# Altium schematic symbol library PROC154E3_SCH_Library.SchLib: 288 symbols (part 2 of 3)
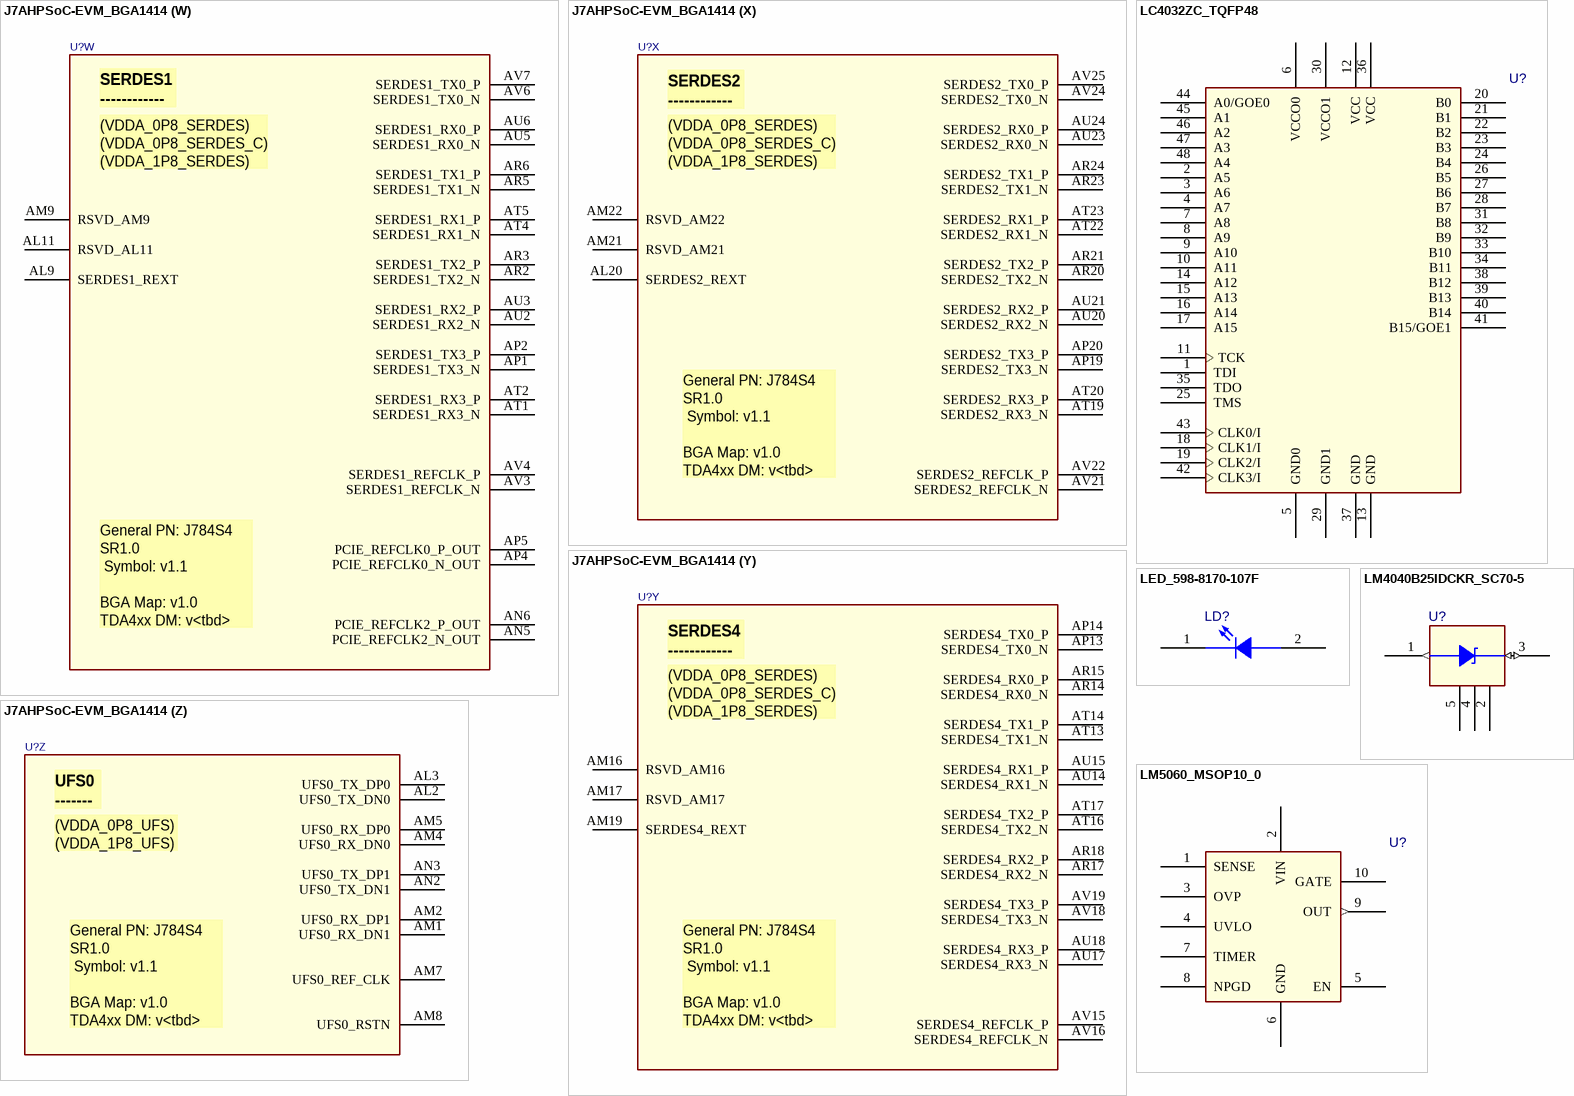
[diagram p25: symbols J7AHPSoC-EVM_BGA1414 to LM5060_MSOP10_0]

## J7AHPSoC-EVM_BGA1414
designator U?
SPLIT_INST: TRUE; SWAP_INFO: (S1+S2+S3+S4+S5+S6+S7+S8+S9+S10+S11+S12+S13+S14+S15+S16+S17+S18+S19+S20+S21+S22+S23+S24+S25+S26)
footprint BGA1414_31-49_1230X1230_2-7
part A pins: AC32 MCASP1_AXR1, AC33 MCAN2_TX, AC34 MCASP1_ACLKX, AC35 MCASP0_AXR8, AC36 MCASP2_AXR0, AC37 MCASP1_AXR2, AD33 MCASP1_AFSX, AD34 MCASP0_AXR12, AD36 ECAP0_IN_APWM_OUT, AD37 MCASP2_ACLKX, AD38 MCASP1_AXR0, AE33 MCAN16_RX, AE34 MCASP0_AXR15, AE35 MCASP0_AXR7, AE36 MCASP2_AXR1, AE37 MCASP2_AFSX, AE38 MCAN0_RX, AF33 MCAN13_TX, AF34 MCASP0_AXR14, AF35 MCASP0_AXR11, AF36 MCASP0_AXR6, AF37 MCASP0_AXR0, AF38 MCAN0_TX, AG33 MCAN14_TX, AG34 MCAN15_TX, AG35 MCASP0_AXR9, AG36 MCAN12_TX, AG37 MCASP0_AXR1, AG38 MCASP0_AXR5, AH33 MCAN13_RX, AH34 MCAN16_TX, AH36 MCASP0_AXR10, AH37 MCAN2_RX, AH38 MCAN1_RX, AJ32 EXT_REFCLK1, AJ33 MCAN12_RX, AJ35 MCAN15_RX, AJ36 MCASP0_AXR13, AJ37 MCAN1_TX, AJ38 MCASP0_AXR3, AK33 MCASP0_AXR2, AK34 MCASP0_AXR4, AK35 MCASP0_ACLKX, AK36 MCAN14_RX, AK37 GPIO0_12, AK38 MCASP0_AFSX, AL32 GPIO0_11, AL33 MCASP1_AXR3, AL34 MCASP1_AXR4, AM35 SPI0_D0, AM36 SPI0_D1, AM37 SPI0_CS0, AN35 EXTINTN, AN36 I2C0_SCL, AN37 TIMER_IO1, AN38 SPI0_CLK, AP37 I2C0_SDA, AP38 SPI0_CS1, AR38 TIMER_IO0
part B pins: AN15 USB0_VBUS, AN17 USB0_ID, AN18 USB0_RCALIB, AP16 USB0_DM, AP17 USB0_DP
part C pins: AA31 VPP_CORE (power), AL35 TDO, AL36 TMS, AL37 TDI, AM14 RSVD_AM14, AN13 RSVD_AN13, F35 EMU0, G30 RSVD_G30, G35 TCK, G37 TRSTN, H32 RSVD_H32, H33 RSVD_H33, H34 EMU1, J30 VMON3_IR_VEXT1P8, J31 RSVD_J31, J33 RSVD_J33, K28 VMON1_ER_VSYS, K30 RSVD_K30, L29 VPP_MCU (power), L30 RSVD_L30, N27 VMON2_IR_VCPU, P28 VMON4_IR_VEXT1P8, R29 VMON5_IR_VEXT3P3
part D pins: AJ34 PMIC_WAKE0, AL38 RESETSTATZ, AM34 SOC_SAFETY_ERRORN, F34 RESET_REQZ, F36 MCU_RESETSTATZ, G34 MCU_I2C0_SDA, G36 MCU_RESETZ, K32 MCU_PORZ, L38 PMIC_POWER_EN1, M35 MCU_I2C0_SCL, N33 WKUP_I2C0_SCL, N35 WKUP_I2C0_SDA, N36 MCU_SAFETY_ERRORN, N37 OSC1_XO, P33 PORZ, P38 OSC1_XI, T38 WKUP_OSC0_XI, U37 WKUP_OSC0_XO
part E pins: AL22 DSI1_TXRCALIB, AL23 RSVD_AL23, AL24 RSVD_AL24, AL25 RSVD_AL25, AM24 DSI0_TXRCALIB, AM26 RSVD_AM26, AN23 DSI0_TXP3, AN24 DSI0_TXN3, AN26 DSI1_TXP1, AN27 DSI1_TXN1, AP25 DSI0_TXCLKP, AP26 DSI0_TXCLKN, AP28 DSI1_TXCLKP, AP29 DSI1_TXCLKN, AR26 DSI0_TXP2, AR27 DSI0_TXN2, AT25 DSI0_TXP1, AT26 DSI0_TXN1, AT28 DSI1_TXP0, AT29 DSI1_TXN0, AU26 DSI0_TXP0, AU27 DSI0_TXN0, AU29 DSI1_TXP3, AU30 DSI1_TXN3, AV27 DSI1_TXP2, AV28 DSI1_TXN2
part F pins: AK29 RSVD_AK29, AK31 RSVD_AK31, AL27 RSVD_AL27, AL28 CSI1_RXRCALIB, AL30 RSVD_AL30, AM28 CSI0_RXRCALIB, AM29 RSVD_AM29, AM31 CSI2_RXRCALIB, AM33 RSVD_AM33, AN29 CSI0_RXCLKP, AN30 CSI0_RXCLKN, AN32 CSI2_RXCLKN, AN33 CSI2_RXCLKP, AP31 CSI1_RXCLKP, AP32 CSI1_RXCLKN, AP34 CSI2_RXP2, AP35 CSI2_RXN2, AR29 CSI0_RXP3, AR30 CSI0_RXN3, AR32 CSI1_RXP2, AR33 CSI1_RXN2, AR35 CSI2_RXP0, AR36 CSI2_RXN0, AT31 CSI0_RXP1, AT32 CSI0_RXN1, AT34 CSI1_RXP0, AT35 CSI1_RXN0, AT37 CSI2_RXP1, AT38 CSI2_RXN1, AU32 CSI0_RXP0, AU33 CSI0_RXN0, AU35 CSI1_RXP1, AU36 CSI1_RXN1, AV30 CSI0_RXP2, AV31 CSI0_RXN2, AV33 CSI1_RXP3, AV34 CSI1_RXN3, AV36 CSI2_RXP3, AV37 CSI2_RXN3
part G pins: AA1 DDR0_DQS1P, AA3 DDR0_DQ10, AA4 DDR0_DM1, AA6 DDR0_DQ12, AA7 DDR0_DQ15, AB2 DDR0_CKN, AB3 DDR0_CA4, AB4 DDR0_CA2, AB6 DDR0_CKE0, AB7 DDR0_CSN1_0, AC1 DDR0_CKP, AC3 DDR0_CA5, AC4 DDR0_CA3, AC5 DDR0_CA1, AC7 DDR0_CSN0_1, AC8 DDR0_RET, AD2 DDR0_CA0, AD3 DDR0_CKE1, AD5 DDR0_RESETN, AD6 DDR0_CSN1_1, AD7 DDR0_CSN0_0, AE1 DDR0_DQS2N, AE3 DDR0_DQ22, AE4 DDR0_DQ23, AE6 DDR0_DQ20, AE7 DDR0_DQ17, AE8 DDR0_CAL0, AF1 DDR0_DQS2P, AF2 DDR0_DQ16, AF4 DDR0_DQ21, AF5 DDR0_DQ19, AF7 RSVD_AF7, AG2 DDR0_DM2, AG3 DDR0_DQ18, AG5 DDR0_DQ24, AG6 DDR0_DQ31, AH1 DDR0_DQS3N, AH3 DDR0_DQ25, AH4 DDR0_DQ27, AH6 DDR0_DQ29, AH7 DDR0_DQ30, AJ1 DDR0_DQS3P, AJ2 DDR0_DQ26, AJ4 DDR0_DQ28, AJ5 DDR0_DM3, U1 DDR0_DQS0P, U2 DDR0_DQ0, U4 DDR0_DQ1, U5 DDR0_DQ6, V1 DDR0_DQS0N, V3 DDR0_DM0, V4 DDR0_DQ4, V6 DDR0_DQ7, V7 DDR0_DQ5, W2 DDR0_DQ11, W3 DDR0_DQ9, W5 DDR0_DQ3, W6 DDR0_DQ2, Y1 DDR0_DQS1N, Y2 DDR0_DQ8, Y4 DDR0_DQ13, Y5 DDR0_DQ14, Y7 RSVD_Y7
part H pins: AA35 MCU_ADC1_REFP, AA37 MCU_ADC1_AIN4, P34 MCU_ADC0_AIN4, P36 MCU_ADC0_AIN0, R33 MCU_ADC0_AIN6, R35 MCU_ADC0_REFP, R37 MCU_ADC0_AIN5, T34 MCU_ADC0_AIN2, T36 MCU_ADC0_AIN3, U33 MCU_ADC1_AIN6, U35 MCU_ADC0_REFN, V34 MCU_ADC1_AIN2, V36 MCU_ADC0_AIN1, V38 MCU_ADC0_AIN7, W33 MCU_ADC1_AIN5, W35 MCU_ADC1_REFN, W37 MCU_ADC1_AIN3, Y34 MCU_ADC1_AIN1, Y36 MCU_ADC1_AIN7, Y38 MCU_ADC1_AIN0
part I pins: F37 MCU_SPI0_CS0, F38 MCU_MCAN0_RX, G38 MCU_SPI0_CLK, H35 WKUP_GPIO0_4, H36 MCU_SPI0_D0, H37 WKUP_GPIO0_14, H38 WKUP_GPIO0_0, J34 WKUP_GPIO0_1, J35 WKUP_GPIO0_2, J36 WKUP_GPIO0_3, J37 WKUP_GPIO0_12, J38 MCU_SPI0_D1, K33 MCU_MCAN0_TX, K34 WKUP_UART0_TXD, K35 WKUP_UART0_RXD, K36 WKUP_GPIO0_5, K37 WKUP_GPIO0_15, K38 WKUP_GPIO0_13, L33 WKUP_GPIO0_10, L34 WKUP_GPIO0_9, L35 WKUP_GPIO0_8, L36 WKUP_GPIO0_7, L37 WKUP_GPIO0_6, M33 WKUP_GPIO0_49, M34 WKUP_GPIO0_67, M36 WKUP_GPIO0_57, M37 WKUP_GPIO0_56, M38 WKUP_GPIO0_11, N34 WKUP_GPIO0_66
part J pins: A32 MCU_OSPI0_CSN0, A33 MCU_OSPI0_CSN1, B32 MCU_OSPI0_D1, B33 MCU_OSPI0_D0, B34 MCU_OSPI0_CSN2, C31 MCU_OSPI1_LBCLKO, C32 MCU_OSPI0_CSN3, C33 MCU_OSPI0_D2, C34 MCU_OSPI0_DQS, C35 MCU_OSPI0_D3, D31 MCU_OSPI1_D1, D32 MCU_OSPI0_LBCLKO, D33 MCU_OSPI0_D4, D34 MCU_OSPI0_D5, E32 MCU_OSPI0_CLK, E33 MCU_OSPI0_D7, E34 MCU_OSPI0_D6, E35 MCU_OSPI1_D0, F31 MCU_OSPI1_DQS, F32 MCU_OSPI1_CLK, F33 MCU_OSPI1_D3, G31 MCU_OSPI1_D2, G32 MCU_OSPI1_CSN0, G33 MCU_OSPI1_CSN1
part K pins: A35 MCU_RGMII1_RD0, A36 MCU_MDIO0_MDC, B35 MCU_MDIO0_MDIO, B36 MCU_RGMII1_RD1, B37 MCU_RGMII1_RXC, C36 MCU_RGMII1_RD2, C37 MCU_RGMII1_RX_CTL, C38 MCU_RGMII1_TX_CTL, D36 MCU_RGMII1_RD3, D37 MCU_RGMII1_TD0, D38 MCU_RGMII1_TD1, E36 MCU_RGMII1_TXC, E37 MCU_RGMII1_TD2, E38 MCU_RGMII1_TD3
part L pins: AA32 MMC1_DAT2, AA33 MMC1_DAT0, AB34 MMC1_DAT1, AB36 MMC1_CMD, AB38 MMC1_CLK, AC38 MMC1_DAT3, AJ7 MMC0_CALPAD, AK2 MMC0_VCTRL_TP, AK3 MMC0_DAT7, AK4 MMC0_DS, AK5 MMC0_CLK, AK6 MMC0_DAT3, AK7 MMC0_DAT4, AK8 MMC0_DAT2, AK9 MMC0_DAT0, AL5 MMC0_DAT6, AL6 MMC0_DAT1, AL7 MMC0_DAT5, AL8 MMC0_CMD
part M pins: AM10 RSVD_AM10, AM12 RSVD_AM12, AN8 PCIE_REFCLK1_N_OUT, AN9 PCIE_REFCLK1_P_OUT, AN11 SERDES0_REXT, AP7 PCIE_REFCLK3_N_OUT, AP8 PCIE_REFCLK3_P_OUT, AP10 SERDES0_TX1_N, AP11 SERDES0_TX1_P, AR8 SERDES0_RX0_N, AR9 SERDES0_RX0_P, AR11 SERDES0_RX2_N, AR12 SERDES0_RX2_P, AT7 SERDES0_TX0_N, AT8 SERDES0_TX0_P, AT10 SERDES0_RX1_N, AT11 SERDES0_RX1_P, AU8 SERDES0_REFCLK_P, AU9 SERDES0_REFCLK_N, AU11 SERDES0_RX3_N, AU12 SERDES0_RX3_P, AV9 SERDES0_TX2_N, AV10 SERDES0_TX2_P, AV12 SERDES0_TX3_N, AV13 SERDES0_TX3_P
part N pins: AA23 VDDA_PLLGRP12 (power), AA27 VDDA_PLLGRP0 (power), AB26 VDDA_PLLGRP13 (power), AD18 VDDA_TEMP4 (power), AE9 VDDA_0P8_DLL_MMC0 (power), AE13 VDDA_TEMP3 (power), AG13 VDDA_PLLGRP2 (power), AG17 VDDA_0P8_SERDES_C4 (power), AG21 VDDA_0P8_SERDES_C2 (power), AG23 VDDA_PLLGRP10 (power), AH11 VDDA_0P8_UFS (power), AH12 VDDA_0P8_SERDES_C0_1 (power), AH13 VDDA_0P8_SERDES_C0_1 (power), AH15 VDDA_0P8_SERDES_C0_1 (power), AH16 VDDA_0P8_SERDES_C0_1 (power), AH17 VDDA_1P8_SERDES4 (power), AH18 VDDA_0P8_SERDES_C4 (power), AH20 VDDA_0P8_SERDES_C2 (power), AH21 VDDA_1P8_SERDES2 (power), AH24 VDDA_1P8_DSITX (power), AH25 VDDA_1P8_DSITX (power), AH27 VDDA_1P8_CSIRX0_1 (power), AH28 VDDA_1P8_CSIRX0_1 (power), AH29 VDDA_1P8_CSIRX2 (power), AJ10 VDDA_1P8_UFS (power), AJ12 VDDA_0P8_SERDES0_1 (power), AJ13 VDDA_1P8_SERDES0_1 (power), AJ14 VDDA_1P8_SERDES0_1 (power), AJ15 VDDA_0P8_SERDES0_1 (power), AJ17 VDDA_0P8_SERDES4 (power), AJ18 VDDA_0P8_SERDES4 (power), AJ19 VDDA_3P3_USB (power), AJ20 VDDA_0P8_SERDES2 (power), AJ21 VDDA_0P8_SERDES2 (power), AJ23 VDDA_1P8_SERDES2_4 (power), AJ24 VDDA_0P8_DSITX (power), AJ25 VDDA_0P8_DSITX_C (power), AJ26 VDDA_0P8_CSIRX0_1 (power), AJ28 VDDA_0P8_CSIRX2 (power), AJ29 VDDA_1P8_CSIRX2 (power), AK13 VDDA_0P8_SERDES0_1 (power), AK14 VDDA_0P8_SERDES0_1 (power), AK20 VDDA_0P8_USB (power), AK21 VDDA_1P8_USB (power), AK26 VDDA_0P8_CSIRX0_1 (power), K31 VDDA_WKUP (power), L32 VDDA_WKUP (power), M12 VDDA_TEMP1 (power), M14 VDDA_0P8_PLL_DDR1 (power), M18 VDDA_0P8_PLL_DDR3 (power), M26 VDDA_MCU_TEMP (power), M28 VDDA_MCU_PLLGRP0 (power), M31 VDDA_ADC0 (power), N11 VDDA_0P8_PLL_DDR2 (power), N28 VDDA_POR_WKUP (power), N29 VDDA_OSC1 (power), N30 VDDA_ADC1 (power), P12 VDDA_PLLGRP7 (power), P15 VDDA_PLLGRP8 (power), R21 VDDA_PLLGRP6 (power), U11 VDDA_0P8_PLL_DDR0 (power), V14 VDDA_PLLGRP5 (power), W23 VDDA_TEMP2 (power), Y26 VDDA_PLLGRP9 (power), Y27 VDDA_TEMP0 (power), Y28 VDDA_PLLGRP1 (power)
part O pins: A31 VDDS_DDR (power), AF9 VDDS_MMC0 (power), AG8 VDDS_MMC0 (power), AG10 VDDS_MMC0 (power), AH9 VDDS_MMC0 (power), AK1 VDDS_DDR (power), B1 VDDS_DDR (power), H9 VDDS_DDR (power), H11 VDDS_DDR (power), H13 VDDS_DDR (power), H15 VDDS_DDR (power), H17 VDDS_DDR (power), H19 VDDS_DDR (power), H25 VDDSHV1_MCU (power), H27 VDDSHV2_MCU (power), H29 VDDSHV0_MCU (power), J8 VDDS_DDR (power), J10 VDDS_DDR (power), J12 VDDS_DDR (power), J14 VDDS_DDR (power), J16 VDDS_DDR (power), J18 VDDS_DDR (power), J24 VDDSHV1_MCU (power), J26 VDDSHV2_MCU (power), J28 VDDSHV0_MCU (power), K9 VDDS_DDR (power), K11 VDDS_DDR (power), K13 VDDS_DDR (power), K15 VDDS_DDR (power), K17 VDDS_DDR (power), K19 VDDS_DDR (power), K25 VDDSHV1_MCU (power), K27 VDDSHV2_MCU (power), K29 VDDSHV0_MCU (power), L10 VDDS_DDR (power), L12 VDDS_DDR (power), L14 VDDS_DDR (power), L15 VDDS_DDR_C1 (power), L16 VDDS_DDR (power), L17 VDDS_DDR_C3 (power), L18 VDDS_DDR (power), L25 CAP_VDDS1_MCU, L26 CAP_VDDS2_MCU, L27 CAP_VDDS0_MCU, M9 VDDS_DDR (power), M10 VDDS_DDR_C2 (power), N8 VDDS_DDR (power), N10 VDDS_DDR (power), P9 VDDS_DDR (power), P29 CAP_VDDS5, P31 VDDSHV5 (power), R8 VDDS_DDR (power), R10 VDDS_DDR (power), R30 VDDSHV5 (power), R31 VDDSHV5 (power), T9 VDDS_DDR (power), T10 VDDS_DDR_C0 (power), T29 CAP_VDDS2, T30 VDDSHV2 (power), T32 VDDSHV2 (power), U8 VDDS_DDR (power), U10 VDDS_DDR (power), U31 VDDSHV2 (power), V29 CAP_VDDS0, V30 VDDSHV0 (power), V32 VDDSHV0 (power), W31 VDDSHV0 (power)
part P pins: AA8 VDD_CPU (power), AA10 VDD_CPU (power), AA12 VDD_CPU (power), AA14 VDD_CPU (power), AA20 VDD_CPU (power), AA22 VDD_CPU (power), AA24 VDD_CORE (power), AA26 VDD_CORE (power), AA28 VDD_CORE (power), AA30 VDD_CORE (power), AB9 VDD_CPU (power), AB11 VDD_CPU (power), AB13 VDDAR_CPU (power), AB19 VDD_CPU (power), AB21 VDD_CPU (power), AB23 VDD_CPU (power), AB25 VDD_CORE (power), AB27 VDDAR_CORE (power), AB29 VDD_CORE (power), AB31 VDD_CORE (power), AC10 VDD_CPU (power), AC12 VDD_CPU (power), AC14 VDD_CPU (power), AC16 VDDAR_CPU (power), AC18 VDDAR_CPU (power), AC20 VDDAR_CPU (power), AC22 VDD_CPU (power), AC24 VDDAR_CORE (power), AC26 VDD_CORE (power), AC28 VDD_CORE (power), AC30 VDD_CORE (power), AD9 VDD_CPU (power), AD11 VDD_CPU (power), AD13 VDD_CPU (power), AD15 VDD_CPU (power), AD17 VDD_CPU (power), AD19 VDD_CPU (power), AD21 VDD_CPU (power), AD23 VDD_CPU (power), AD25 VDD_CORE (power), AD27 VDD_CORE (power), AD29 VDD_CORE (power), AD31 VDD_CORE (power), AE10 VDD_CPU (power), AE12 VDDAR_CPU (power), AE14 VDD_CPU (power), AE16 VDD_CPU (power), AE18 VDD_CPU (power), AE20 VDD_CPU (power), AE22 VDD_CPU (power), AE24 VDD_CORE (power), AE26 VDD_CORE (power), AE28 VDD_CORE (power), AE30 VDD_CORE (power), AE32 VDD_CORE (power), AF11 VDD_CPU (power), AF13 VDD_CORE (power), AF15 VDDAR_CORE (power), AF17 VDD_CORE (power), AF18 VDDAR_CORE (power), AF19 VDD_CORE (power), AF21 VDDAR_CORE (power), AF23 VDD_CORE (power), AF25 VDD_CORE (power), AF27 VDD_CORE (power), AF29 VDD_CORE (power), AF31 VDD_CORE (power), AG11 VDDAR_CORE (power), AG12 VDD_CORE (power), AG14 VDD_CORE (power), AG16 VDD_CORE (power), AG18 VDD_CORE (power), AG20 VDD_CORE (power), AG22 VDD_CORE (power), AG24 VDD_CORE (power), AG26 VDD_CORE (power), AG28 VDDAR_CORE (power), AG30 VDD_CORE (power), AG32 VDD_CORE (power), AH31 VDD_CORE (power), AJ30 VDD_CORE (power), H21 VDD_CPU (power), H23 VDD_CPU (power), J20 VDD_CPU (power), J22 VDD_CPU (power), K21 VDD_CPU (power), K23 VDD_CPU (power), L20 VDD_CPU (power), L22 VDD_CPU (power), L24 VDD_MCU (power), L28 VDD_MCU_WAKE1 (power), M11 VDD_CORE (power), M13 VDD_CORE (power), M15 VDD_CORE (power), M17 VDD_CORE (power), M19 VDD_CORE (power), M21 VDDAR_CPU (power), M23 VDD_MCU (power), M25 VDD_MCU (power), M27 VDDAR_MCU (power), N12 VDD_CORE (power), N16 VDD_CORE (power), N18 VDD_CORE (power), N20 VDD_CPU (power), N22 VDD_CPU (power), N23 VDDAR_CPU (power), N24 VDDAR_MCU (power), N26 VDD_MCU (power), P11 VDD_CORE (power), P17 VDD_CORE (power), P19 VDD_CORE (power), P21 VDD_CPU (power), P23 VDD_MCU (power), P25 VDD_MCU (power), P27 VDD_MCU (power), R12 VDD_CORE (power), R14 VDD_CORE (power), R16 VDD_CORE (power), R18 VDD_CORE (power), R20 VDD_CPU (power), R22 VDD_CPU (power), R24 VDD_CORE (power), R26 VDD_CORE (power), R28 VDD_CORE (power), T11 VDD_CORE (power), T13 VDD_CORE (power), T15 VDDAR_CPU (power), T17 VDD_CPU (power), T19 VDD_CPU (power), T21 VDD_CPU (power), T23 VDD_CPU (power), T25 VDDAR_CORE (power), T27 VDD_CORE (power), U12 VDD_CORE (power), U14 VDD_CPU (power), U20 VDDAR_CPU (power), U22 VDD_CPU (power), U24 VDD_CORE (power), U26 VDD_CORE (power), U28 VDD_CORE (power), U29 VDD_WAKE0 (power), V9 VDD_CPU (power), V11 VDD_CPU (power), V13 VDD_CPU (power), V19 VDD_CPU (power), V21 VDD_CPU (power), V23 VDD_CPU (power), V25 VDD_CORE (power), V27 VDD_CORE (power), W8 VDD_CPU (power), W10 VDD_CPU (power), W12 VDD_CPU (power), W14 VDDAR_CPU (power), W20 VDD_CPU (power), W21 VDDAR_CPU (power), W22 VDD_CPU (power), W24 VDD_CORE (power), W26 VDD_CORE (power), W28 VDD_CORE (power), W30 VDD_CORE (power), W32 VDD_CORE (power), Y9 VDD_CPU (power), Y11 VDDAR_CPU (power), Y13 VDD_CPU (power), Y19 VDDAR_CPU (power), Y21 VDD_CPU (power), Y23 VDD_CPU (power), Y25 VDD_CORE (power), Y29 VDD_CORE (power), Y31 VDD_CORE (power)
part Q pins: A1 VSS (power), A2 VSS (power), A5 VSS (power), A7 VSS (power), A10 VSS (power), A12 VSS (power), A15 VSS (power), A20 VSS (power), A23 VSS (power), A25 VSS (power), A28 VSS (power), A34 VSS (power), A37 VSS (power), AJ16 VSS (power), AL16 VSS (power), AR28 VSS (power), B6 VSS (power), B9 VSS (power), B11 VSS (power), B13 VSS (power), B16 VSS (power), B19 VSS (power), B22 VSS (power), B24 VSS (power), B26 VSS (power), B29 VSS (power), B31 VSS (power), B38 VSS (power), C2 VSS (power), C4 VSS (power), C8 VSS (power), C14 VSS (power), C17 VSS (power), C18 VSS (power), C21 VSS (power), C27 VSS (power), C30 VSS (power), D3 VSS (power), D6 VSS (power), D7 VSS (power), D10 VSS (power), D15 VSS (power), D20 VSS (power), D23 VSS (power), D28 VSS (power), D35 VSS (power), E2 VSS (power), E5 VSS (power), E9 VSS (power), E12 VSS (power), E13 VSS (power), E16 VSS (power), E19 VSS (power), E22 VSS (power), E25 VSS (power), E26 VSS (power), E29 VSS (power), E31 VSS (power), F1 VSS (power), F4 VSS (power), F7 VSS (power), F8 VSS (power), F11 VSS (power), F14 VSS (power), F17 VSS (power), F21 VSS (power), F24 VSS (power), F27 VSS (power), F30 VSS (power), G3 VSS (power), G6 VSS (power), G15 VSS (power), G18 VSS (power), G20 VSS (power), G28 VSS (power), H2 VSS (power), H5 VSS (power), H7 VSS (power), H8 VSS (power), H10 VSS (power), H16 VSS (power), H18 VSS (power), H20 VSS (power), H22 VSS (power), H24 VSS (power), H26 VSS (power), H28 VSS (power), H30 VSS (power), H31 VSS (power), J1 VSS (power), J4 VSS (power), J9 VSS (power), J11 VSS (power), J13 VSS (power), J15 VSS (power), J17 VSS (power), J19 VSS (power), J21 VSS (power), J23 VSS (power), J25 VSS (power), J27 VSS (power), J29 VSS (power), J32 VSS (power), K2 VSS (power), K6 VSS (power), K8 VSS (power), K10 VSS (power), K12 VSS (power), K14 VSS (power), K16 VSS (power), K18 VSS (power), K20 VSS (power), K22 VSS (power), K24 VSS (power), K26 VSS (power), L1 VSS (power), L5 VSS (power), L9 VSS (power), L11 VSS (power), L13 VSS (power), L19 VSS (power), L21 VSS (power), L23 VSS (power), L31 VSS (power), M2 VSS (power), M5 VSS (power), M8 VSS (power), M16 VSS (power), M20 VSS (power), M22 VSS (power), M24 VSS (power), M30 VSS (power), M32 VSS (power), N3 VSS (power), N6 VSS (power), N9 VSS (power), N15 VSS (power), N17 VSS (power), N19 VSS (power), N21 VSS (power), N25 VSS (power), N31 VSS (power), N38 VSS (power), P1 VSS (power), P4 VSS (power), P7 VSS (power), P8 VSS (power), P10 VSS (power), P16 VSS (power), P18 VSS (power), P20 VSS (power), P22 VSS (power), P24 VSS (power), P26 VSS (power), P30 VSS (power), P32 VSS (power), P35 VSS (power), P37 VSS (power), R2 VSS (power), R5 VSS (power), R9 VSS (power), R11 VSS (power), R13 VSS (power), R15 VSS (power), R17 VSS (power), R19 VSS (power), R23 VSS (power), R25 VSS (power), R27 VSS (power), R32 VSS (power), R34 VSS (power), R36 VSS (power), R38 VSS (power), T3 VSS (power), T6 VSS (power), T8 VSS (power), T12 VSS (power), T14 VSS (power), T16 VSS (power), T18 VSS (power), T20 VSS (power), T22 VSS (power), T24 VSS (power), T26 VSS (power), T28 VSS (power), T31 VSS (power), T33 VSS (power), T35 VSS (power), T37 VSS (power), U3 VSS (power), U6 VSS (power), U9 VSS (power), U13 VSS (power), U19 VSS (power), U21 VSS (power), U23 VSS (power), U25 VSS (power), U27 VSS (power), U30 VSS (power), U32 VSS (power), U34 VSS (power), U36 VSS (power), U38 VSS (power), V2 VSS (power), V5 VSS (power), V8 VSS (power), V10 VSS (power), V12 VSS (power), V20 VSS (power), V22 VSS (power), V24 VSS (power), V26 VSS (power), V28 VSS (power), V31 VSS (power), V33 VSS (power), V35 VSS (power), V37 VSS (power), W1 VSS (power), W4 VSS (power), W7 VSS (power), W9 VSS (power), W11 VSS (power), W13 VSS (power), W19 VSS (power), W25 VSS (power), W27 VSS (power), W29 VSS (power), W34 VSS (power), W36 VSS (power), W38 VSS (power), Y3 VSS (power), Y6 VSS (power)
part R pins: AA2 VSS (power), AA5 VSS (power), AA9 VSS (power), AA11 VSS (power), AA13 VSS (power), AA19 VSS (power), AA21 VSS (power), AA25 VSS (power), AA29 VSS (power), AA34 VSS (power), AA36 VSS (power), AA38 VSS (power), AB1 VSS (power), AB5 VSS (power), AB8 VSS (power), AB10 VSS (power), AB12 VSS (power), AB14 VSS (power), AB20 VSS (power), AB22 VSS (power), AB24 VSS (power), AB28 VSS (power), AB30 VSS (power), AB32 VSS (power), AB33 VSS (power), AB35 VSS (power), AB37 VSS (power), AC2 VSS (power), AC6 VSS (power), AC9 VSS (power), AC11 VSS (power), AC13 VSS (power), AC15 VSS (power), AC17 VSS (power), AC19 VSS (power), AC21 VSS (power), AC23 VSS (power), AC25 VSS (power), AC27 VSS (power), AC29 VSS (power), AC31 VSS (power), AD1 VSS (power), AD4 VSS (power), AD8 VSS (power), AD10 VSS (power), AD12 VSS (power), AD14 VSS (power), AD16 VSS (power), AD20 VSS (power), AD22 VSS (power), AD24 VSS (power), AD26 VSS (power), AD28 VSS (power), AD30 VSS (power), AD32 VSS (power), AD35 VSS (power), AE2 VSS (power), AE5 VSS (power), AE11 VSS (power), AE15 VSS (power), AE17 VSS (power), AE19 VSS (power), AE21 VSS (power), AE23 VSS (power), AE25 VSS (power), AE27 VSS (power), AE29 VSS (power), AE31 VSS (power), AF3 VSS (power), AF6 VSS (power), AF8 VSS (power), AF10 VSS (power), AF12 VSS (power), AF14 VSS (power), AF16 VSS (power), AF20 VSS (power), AF22 VSS (power), AF24 VSS (power), AF26 VSS (power), AF28 VSS (power), AF30 VSS (power), AF32 VSS (power), AG1 VSS (power), AG4 VSS (power), AG7 VSS (power), AG9 VSS (power), AG15 VSS (power), AG19 VSS (power), AG25 VSS (power), AG27 VSS (power), AG29 VSS (power), AG31 VSS (power), AH2 VSS (power), AH5 VSS (power), AH8 VSS (power), AH10 VSS (power), AH14 VSS (power), AH19 VSS (power), AH22 VSS (power), AH23 VSS (power), AH26 VSS (power), AH30 VSS (power), AH32 VSS (power), AH35 VSS (power), AJ3 VSS (power), AJ6 VSS (power), AJ8 VSS (power), AJ9 VSS (power), AJ11 VSS (power), AJ22 VSS (power), AJ27 VSS (power), AJ31 VSS (power), AK10 VSS (power), AK11 VSS (power), AK12 VSS (power), AK15 VSS (power), AK16 VSS (power), AK17 VSS (power), AK18 VSS (power), AK19 VSS (power), AK22 VSS (power), AK23 VSS (power), AK24 VSS (power), AK25 VSS (power), AK27 VSS (power), AK28 VSS (power), AK30 VSS (power), AK32 VSS (power), AL1 VSS (power), AL4 VSS (power), AL10 VSS (power), AL12 VSS (power), AL13 VSS (power), AL14 VSS (power), AL15 VSS (power), AL17 VSS (power), AL18 VSS (power), AL19 VSS (power), AL21 VSS (power), AL26 VSS (power), AL29 VSS (power), AL31 VSS (power), AM3 VSS (power), AM6 VSS (power), AM11 VSS (power), AM13 VSS (power), AM15 VSS (power), AM18 VSS (power), AM20 VSS (power), AM23 VSS (power), AM25 VSS (power), AM27 VSS (power), AM30 VSS (power), AM32 VSS (power), AM38 VSS (power), AN1 VSS (power), AN4 VSS (power), AN7 VSS (power), AN10 VSS (power), AN12 VSS (power), AN14 VSS (power), AN16 VSS (power), AN19 VSS (power), AN22 VSS (power), AN25 VSS (power), AN28 VSS (power), AN31 VSS (power), AN34 VSS (power), AP3 VSS (power), AP6 VSS (power), AP9 VSS (power), AP12 VSS (power), AP15 VSS (power), AP18 VSS (power), AP21 VSS (power), AP24 VSS (power), AP27 VSS (power), AP30 VSS (power), AP33 VSS (power), AP36 VSS (power), AR1 VSS (power), AR4 VSS (power), AR7 VSS (power), AR10 VSS (power), AR13 VSS (power), AR16 VSS (power), AR19 VSS (power), AR22 VSS (power), AR25 VSS (power), AR31 VSS (power), AR34 VSS (power), AR37 VSS (power), AT3 VSS (power), AT6 VSS (power), AT9 VSS (power), AT12 VSS (power), AT15 VSS (power), AT18 VSS (power), AT21 VSS (power), AT24 VSS (power), AT27 VSS (power), AT30 VSS (power), AT33 VSS (power), AT36 VSS (power), AU1 VSS (power), AU4 VSS (power), AU7 VSS (power), AU10 VSS (power), AU13 VSS (power), AU16 VSS (power), AU19 VSS (power), AU22 VSS (power), AU25 VSS (power), AU28 VSS (power), AU31 VSS (power), AU34 VSS (power), AU37 VSS (power), AU38 VSS (power), AV1 VSS (power), AV2 VSS (power), AV5 VSS (power), AV8 VSS (power), AV11 VSS (power), AV14 VSS (power), AV17 VSS (power), AV20 VSS (power), AV23 VSS (power), AV26 VSS (power), AV29 VSS (power), AV32 VSS (power), AV35 VSS (power), M29 VSS (power), N32 VSS (power), Y8 VSS (power), Y10 VSS (power), Y12 VSS (power), Y14 VSS (power), Y20 VSS (power), Y22 VSS (power), Y24 VSS (power), Y30 VSS (power), Y32 VSS (power), Y33 VSS (power), Y35 VSS (power), Y37 VSS (power)
part S pins: AN20 RSVD_AN20, AN21 RSVD_AN21, AP22 DP0_AUXN, AP23 DP0_AUXP
part T pins: A3 DDR1_DQS3P, A4 DDR1_DQS3N, A6 DDR1_DQ28, A8 DDR1_DQS2P, A9 DDR1_DQS2N, A11 DDR1_CKN, A13 DDR1_DQS1P, A14 DDR1_DQS1N, A16 DDR1_DQS0P, A17 DDR1_DQS0N, B2 DDR1_DQ24, B3 DDR1_DQ25, B4 DDR1_DQ26, B5 DDR1_DQ27, B7 DDR1_DQ22, B8 DDR1_DQ21, B10 DDR1_CKP, B12 DDR1_CA2, B14 DDR1_DQ9, B15 DDR1_DQ8, B17 DDR1_DQ6, C1 DDR1_DM3, C3 DDR1_DQ31, C5 DDR1_DQ29, C6 DDR1_DQ30, C7 DDR1_DQ23, C9 DDR1_DQ20, C10 DDR1_CKE1, C11 DDR1_CA3, C12 DDR1_CA1, C13 DDR1_DQ10, C15 DDR1_DM1, C16 DDR1_DQ5, D8 DDR1_DM2, D9 DDR1_DQ19, D11 DDR1_CKE0, D12 DDR1_CA4, D13 DDR1_DQ11, D14 DDR1_DQ15, D16 DDR1_DQ4, D17 DDR1_DQ7, E8 DDR1_DQ16, E10 DDR1_CA5, E11 DDR1_CSN0_0, E14 DDR1_DQ14, E15 DDR1_DQ3, E17 DDR1_DM0, F9 DDR1_DQ18, F10 DDR1_CSN1_0, F12 DDR1_CA0, F13 DDR1_DQ12, F15 DDR1_DQ2, F16 DDR1_DQ0, G8 DDR1_RET, G9 DDR1_DQ17, G10 DDR1_RESETN, G11 DDR1_CSN0_1, G12 DDR1_CSN1_1, G13 DDR1_DQ13, G14 DDR1_CAL0, G16 DDR1_DQ1, H12 RSVD_H12, H14 RSVD_H14
part U pins: D1 DDR2_DQS3N, D2 DDR2_DQ25, D4 DDR2_DQ31, D5 DDR2_DM3, E1 DDR2_DQS3P, E3 DDR2_DQ28, E4 DDR2_DQ24, E6 DDR2_DQ30, E7 DDR2_DQ29, F2 DDR2_DQ23, F3 DDR2_DQ16, F5 DDR2_DQ27, F6 DDR2_DQ26, G1 DDR2_DQS2N, G2 DDR2_DQ20, G4 DDR2_DM2, G5 DDR2_DQ22, G7 DDR2_DQ17, H1 DDR2_DQS2P, H3 DDR2_DQ21, H4 DDR2_DQ19, H6 DDR2_DQ18, J2 DDR2_CKE1, J3 DDR2_CSN0_0, J5 DDR2_RESETN, J6 DDR2_CSN0_1, J7 DDR2_CSN1_0, K1 DDR2_CKN, K3 DDR2_CA0, K4 DDR2_CA4, K5 DDR2_CA2, K7 DDR2_CSN1_1, L2 DDR2_CKP, L3 DDR2_CA1, L4 DDR2_CA3, L6 DDR2_CKE0, L7 DDR2_CA5, L8 DDR2_RET, M1 DDR2_DQS1N, M3 DDR2_DQ15, M4 DDR2_DQ14, M6 DDR2_DM1, M7 DDR2_DQ12, N1 DDR2_DQS1P, N2 DDR2_DQ8, N4 DDR2_DQ9, N5 DDR2_DQ13, N7 RSVD_N7, P2 DDR2_DQ10, P3 DDR2_DQ11, P5 DDR2_DQ5, P6 DDR2_DQ4, R1 DDR2_DQS0N, R3 DDR2_DQ2, R4 DDR2_DQ3, R6 DDR2_DQ1, R7 DDR2_DQ7, T1 DDR2_DQS0P, T2 DDR2_DM0, T4 DDR2_DQ0, T5 DDR2_DQ6, T7 RSVD_T7, U7 DDR2_CAL0
part V pins: A18 DDR3_DQS0P, A19 DDR3_DQS0N, A21 DDR3_DQS1P, A22 DDR3_DQS1N, A24 DDR3_CKP, A26 DDR3_DQS2P, A27 DDR3_DQS2N, A29 DDR3_DQS3P, A30 DDR3_DQS3N, B18 DDR3_DQ1, B20 DDR3_DQ14, B21 DDR3_DQ13, B23 DDR3_CA1, B25 DDR3_CKN, B27 DDR3_DQ17, B28 DDR3_DQ16, B30 DDR3_DQ30, C19 DDR3_DQ2, C20 DDR3_DQ15, C22 DDR3_DQ12, C23 DDR3_RESETN, C24 DDR3_CA3, C25 DDR3_CKE0, C26 DDR3_DQ18, C28 DDR3_DM2, C29 DDR3_DQ29, D18 DDR3_DQ0, D19 DDR3_DQ3, D21 DDR3_DM1, D22 DDR3_DQ11, D24 DDR3_CA2, D25 DDR3_CA0, D26 DDR3_DQ19, D27 DDR3_DQ23, D29 DDR3_DQ28, D30 DDR3_DQ31, E18 DDR3_DM0, E20 DDR3_DQ5, E21 DDR3_DQ8, E23 DDR3_CA4, E24 DDR3_CSN1_1, E27 DDR3_DQ22, E28 DDR3_DQ27, E30 DDR3_DM3, F18 DDR3_CAL0, F19 DDR3_DQ7, F20 DDR3_DQ4, F22 DDR3_DQ10, F23 DDR3_CA5, F25 DDR3_CSN1_0, F26 DDR3_DQ20, F28 DDR3_DQ26, F29 DDR3_DQ24, G17 RSVD_G17, G19 DDR3_DQ6, G21 DDR3_DQ9, G22 RSVD_G22, G23 DDR3_CSN0_0, G24 DDR3_CKE1, G25 DDR3_CSN0_1, G26 DDR3_DQ21, G27 DDR3_RET, G29 DDR3_DQ25
part W pins: AL9 SERDES1_REXT, AL11 RSVD_AL11, AM9 RSVD_AM9, AN5 PCIE_REFCLK2_N_OUT, AN6 PCIE_REFCLK2_P_OUT, AP1 SERDES1_TX3_N, AP2 SERDES1_TX3_P, AP4 PCIE_REFCLK0_N_OUT, AP5 PCIE_REFCLK0_P_OUT, AR2 SERDES1_TX2_N, AR3 SERDES1_TX2_P, AR5 SERDES1_TX1_N, AR6 SERDES1_TX1_P, AT1 SERDES1_RX3_N, AT2 SERDES1_RX3_P, AT4 SERDES1_RX1_N, AT5 SERDES1_RX1_P, AU2 SERDES1_RX2_N, AU3 SERDES1_RX2_P, AU5 SERDES1_RX0_N, AU6 SERDES1_RX0_P, AV3 SERDES1_REFCLK_N, AV4 SERDES1_REFCLK_P, AV6 SERDES1_TX0_N, AV7 SERDES1_TX0_P
part X pins: AL20 SERDES2_REXT, AM21 RSVD_AM21, AM22 RSVD_AM22, AP19 SERDES2_TX3_N, AP20 SERDES2_TX3_P, AR20 SERDES2_TX2_N, AR21 SERDES2_TX2_P, AR23 SERDES2_TX1_N, AR24 SERDES2_TX1_P, AT19 SERDES2_RX3_N, AT20 SERDES2_RX3_P, AT22 SERDES2_RX1_N, AT23 SERDES2_RX1_P, AU20 SERDES2_RX2_N, AU21 SERDES2_RX2_P, AU23 SERDES2_RX0_N, AU24 SERDES2_RX0_P, AV21 SERDES2_REFCLK_N, AV22 SERDES2_REFCLK_P, AV24 SERDES2_TX0_N, AV25 SERDES2_TX0_P
part Y pins: AM16 RSVD_AM16, AM17 RSVD_AM17, AM19 SERDES4_REXT, AP13 SERDES4_TX0_N, AP14 SERDES4_TX0_P, AR14 SERDES4_RX0_N, AR15 SERDES4_RX0_P, AR17 SERDES4_RX2_N, AR18 SERDES4_RX2_P, AT13 SERDES4_TX1_N, AT14 SERDES4_TX1_P, AT16 SERDES4_TX2_N, AT17 SERDES4_TX2_P, AU14 SERDES4_RX1_N, AU15 SERDES4_RX1_P, AU17 SERDES4_RX3_N, AU18 SERDES4_RX3_P, AV15 SERDES4_REFCLK_P, AV16 SERDES4_REFCLK_N, AV18 SERDES4_TX3_N, AV19 SERDES4_TX3_P
part Z pins: AL2 UFS0_TX_DN0, AL3 UFS0_TX_DP0, AM1 UFS0_RX_DN1, AM2 UFS0_RX_DP1, AM4 UFS0_RX_DN0, AM5 UFS0_RX_DP0, AM7 UFS0_REF_CLK, AM8 UFS0_RSTN, AN2 UFS0_TX_DN1, AN3 UFS0_TX_DP1
part A text: General IO / ---------------; (VDDSHV0); (VDDSHV2); General PN: J784S4 / SR1.0 / Symbol: v1.1 / BGA Map: v1.0 / TDA4xx DM: v<tbd>
part B text: USB0 / --------; (VDDA_3P3_USB) / (VDDA_1P8_USB) / (VDDA_0P8_USB); General PN: J784S4 / SR1.0 / Symbol: v1.1 / BGA Map: v1.0 / TDA4xx DM: v<tbd>
part C text: Special, Debug & Rsvd / ------------------------------; (VDDSHV0_MCU); (VDDSHV0); General PN: J784S4 / SR1.0 / Symbol: v1.1 / BGA Map: v1.0 / TDA4xx DM: v<tbd>
part D text: CNTRL & OSC / ------------------; (VDDSHV0_MCU); (VDDA_WKUP); (VDDSHV0); (VDDSHV2); (VDDA_OSC1); General PN: J784S4 / SR1.0 / Symbol: v1.1 / BGA Map: v1.0 / TDA4xx DM: v<tbd>
part E text: DSI0 - TX / ------------; (VDDA_1P8_DSITX); General PN: J784S4 / SR1.0 / Symbol: v1.1 / BGA Map: v1.0 / TDA4xx DM: v<tbd>; DSI1 - TX / ------------
part F text: CSI0 - RX / ------------; (VDDA_1P8_CSIRX); General PN: J784S4 / SR1.0 / Symbol: v1.1 / BGA Map: v1.0 / TDA4xx DM: v<tbd>; CSI1 - RX / ------------; CSI2 - RX / ------------
part G text: DDR0 / ---------; (VDD_DDR) / (VDDS_DDR) / (VDDS_DDR_C0); General PN: J784S4 / SR1.0 / Symbol: v1.1 / BGA Map: v1.0 / TDA4xx DM: v<tbd>
part H text: MCU - ADC0 / -----------------; (VDDA_ADC_MCU); MCU - ADC1 / -----------------; General PN: J784S4 / SR1.0 / Symbol: v1.1 / BGA Map: v1.0 / TDA4xx DM: v<tbd>
part I text: MCU General IO / ----------------------; (VDDSHV0_MCU); General PN: J784S4 / SR1.0 / Symbol: v1.1 / BGA Map: v1.0 / TDA4xx DM: v<tbd>
part J text: MCU Flash / --------------; (VDDSHV1_MCU); General PN: J784S4 / SR1.0 / Symbol: v1.1 / BGA Map: v1.0 / TDA4xx DM: v<tbd>
part K text: MCU RGMII / ----------------; (VDDSHV2_MCU); General PN: J784S4 / SR1.0 / Symbol: v1.1 / BGA Map: v1.0 / TDA4xx DM: v<tbd>
part L text: MMC0 / ----------; (VDDS_MMC0); (VDDA_0P8_DLL_MMC0); General PN: J784S4 / SR1.0 / Symbol: v1.1 / BGA Map: v1.0 / TDA4xx DM: v<tbd>; MMC1 / ----------; (VDDSHV5)
part M text: SERDES0 / ------------; (VDDA_0P8_SERDES) / (VDDA_0P8_SERDES_C) / (VDDA_1P8_SERDES); General PN: J784S4 / SR1.0 / Symbol: v1.1 / BGA Map: v1.0 / TDA4xx DM: v<tbd>
part N text: Analog Power / -------------------; General PN: J784S4 / SR1.0 / Symbol: v1.1 / BGA Map: v1.0 / TDA4xx DM: v<tbd>
part O text: IO Power & Support / ----------------------------; General PN: J784S4 / SR1.0 / Symbol: v1.1 / BGA Map: v1.0 / TDA4xx DM: v<tbd>
part P text: Digital Power / -------------------; General PN: J784S4 / SR1.0 / Symbol: v1.1 / BGA Map: v1.0 / TDA4xx DM: v<tbd>
part Q text: Ground/VSS1 / ------------------; General PN: J784S4 / SR1.0 / Symbol: v1.1 / BGA Map: v1.0 / TDA4xx DM: v<tbd>
part R text: Ground/VSS2 / ------------------; General PN: J784S4 / SR1.0 / Symbol: v1.1 / BGA Map: v1.0 / TDA4xx DM: v<tbd>
part S text: Display Port / ----------------; (VDDA_1P8_SERDES2_4); General PN: J784S4 / SR1.0 / Symbol: v1.1 / BGA Map: v1.0 / TDA4xx DM: v<tbd>
part T text: DDR1 / ---------; (VDD_DDR) / (VDDS_DDR) / (VDDS_DDR_C1); General PN: J784S4 / SR1.0 / Symbol: v1.1 / BGA Map: v1.0 / TDA4xx DM: v<tbd>
part U text: DDR2 / ---------; (VDD_DDR) / (VDDS_DDR) / (VDDS_DDR_C2); General PN: J784S4 / SR1.0 / Symbol: v1.1 / BGA Map: v1.0 / TDA4xx DM: v<tbd>
part V text: DDR3 / ---------; (VDD_DDR) / (VDDS_DDR) / (VDDS_DDR_C3); General PN: J784S4 / SR1.0 / Symbol: v1.1 / BGA Map: v1.0 / TDA4xx DM: v<tbd>
part W text: SERDES1 / ------------; (VDDA_0P8_SERDES) / (VDDA_0P8_SERDES_C) / (VDDA_1P8_SERDES); General PN: J784S4 / SR1.0 / Symbol: v1.1 / BGA Map: v1.0 / TDA4xx DM: v<tbd>
part X text: SERDES2 / ------------; (VDDA_0P8_SERDES) / (VDDA_0P8_SERDES_C) / (VDDA_1P8_SERDES); General PN: J784S4 / SR1.0 / Symbol: v1.1 / BGA Map: v1.0 / TDA4xx DM: v<tbd>
part Y text: SERDES4 / ------------; (VDDA_0P8_SERDES) / (VDDA_0P8_SERDES_C) / (VDDA_1P8_SERDES); General PN: J784S4 / SR1.0 / Symbol: v1.1 / BGA Map: v1.0 / TDA4xx DM: v<tbd>
part Z text: UFS0 / -------; (VDDA_0P8_UFS) / (VDDA_1P8_UFS); General PN: J784S4 / SR1.0 / Symbol: v1.1 / BGA Map: v1.0 / TDA4xx DM: v<tbd>

## LC4032ZC_TQFP48
designator U?
pins: 1 TDI, 2 A5, 3 A6, 4 A7, 5 GND0 (power), 6 VCCO0 (power), 7 A8, 8 A9, 9 A10, 10 A11, 11 TCK, 12 VCC (power), 13 GND (power), 14 A12, 15 A13, 16 A14, 17 A15, 18 CLK1/I, 19 CLK2/I, 20 B0, 21 B1, 22 B2, 23 B3, 24 B4, 25 TMS, 26 B5, 27 B6, 28 B7, 29 GND1 (power), 30 VCCO1 (power), 31 B8, 32 B9, 33 B10, 34 B11, 35 TDO, 36 VCC (power), 37 GND (power), 38 B12, 39 B13, 40 B14, 41 B15/GOE1, 42 CLK3/I, 43 CLK0/I, 44 A0/GOE0, 45 A1, 46 A2, 47 A3, 48 A4

## LED_598-8170-107F
designator LD?
pins: 1, 2

## LM4040B25IDCKR_SC70-5
designator U?
pins: 1 ANODE (out), 2 NC1, 3 CATHODE (io), 4 NC2, 5 NC3

## LM5060_MSOP10_0
designator U?
pins: 1 SENSE, 2 VIN (power), 3 OVP, 4 UVLO, 5 EN, 6 GND (power), 7 TIMER, 8 NPGD, 9 OUT (out), 10 GATE

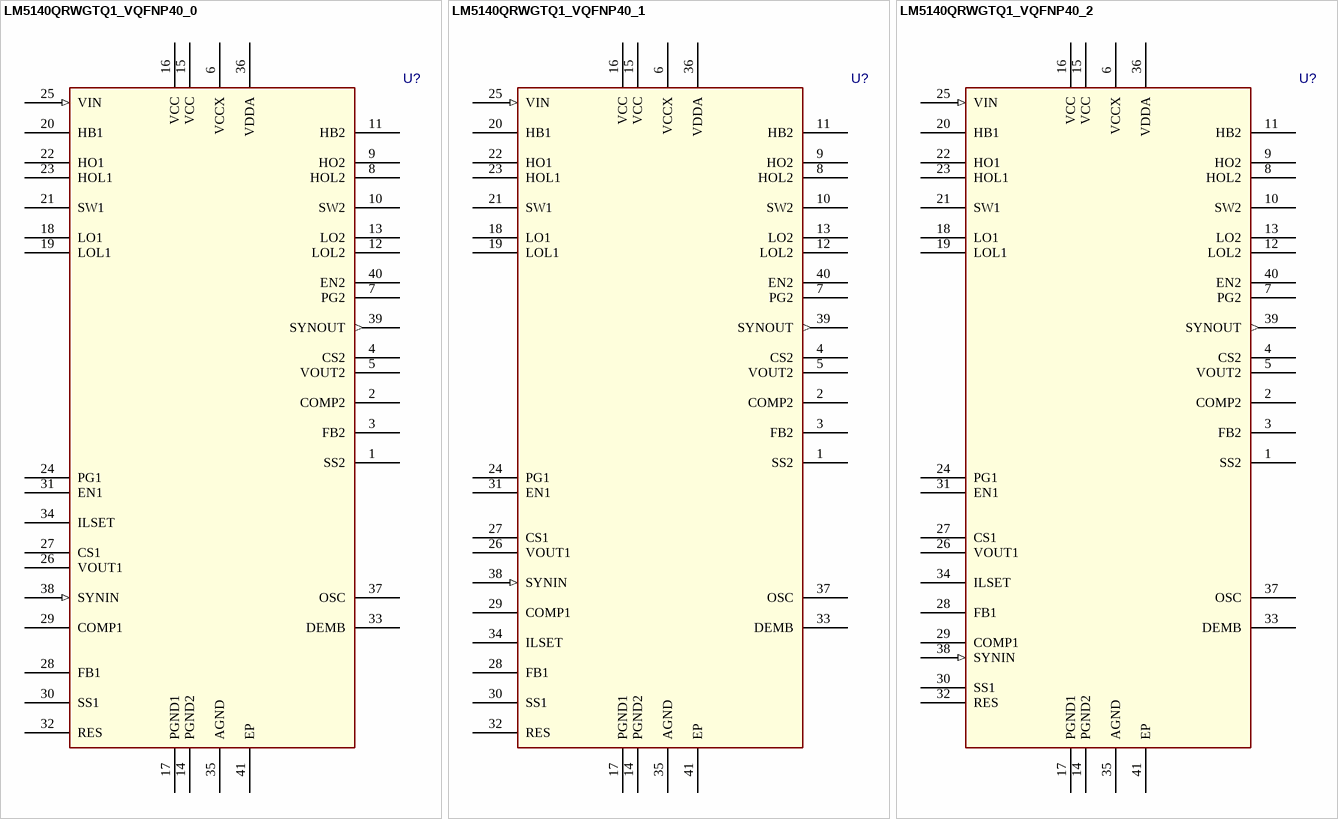
[diagram p14: symbols LM5140QRWGTQ1_VQFNP40_0 to LM5140QRWGTQ1_VQFNP40_2]

## LM5140QRWGTQ1_VQFNP40_0
designator U?
footprint TBD
pins: 1 SS2, 2 COMP2, 3 FB2, 4 CS2, 5 VOUT2 (power), 6 VCCX (power), 7 PG2, 8 HOL2, 9 HO2, 10 SW2, 11 HB2, 12 LOL2, 13 LO2, 14 PGND2 (power), 15 VCC (power), 16 VCC (power), 17 PGND1 (power), 18 LO1, 19 LOL1, 20 HB1, 21 SW1, 22 HO1, 23 HOL1, 24 PG1, 25 VIN (in), 26 VOUT1 (power), 27 CS1, 28 FB1, 29 COMP1, 30 SS1, 31 EN1, 32 RES, 33 DEMB, 34 ILSET, 35 AGND (power), 36 VDDA (power), 37 OSC, 38 SYNIN (in), 39 SYNOUT (out), 40 EN2, 41 EP (power)

## LM5140QRWGTQ1_VQFNP40_1
designator U?
footprint TBD
pins: 1 SS2, 2 COMP2, 3 FB2, 4 CS2, 5 VOUT2 (power), 6 VCCX (power), 7 PG2, 8 HOL2, 9 HO2, 10 SW2, 11 HB2, 12 LOL2, 13 LO2, 14 PGND2 (power), 15 VCC (power), 16 VCC (power), 17 PGND1 (power), 18 LO1, 19 LOL1, 20 HB1, 21 SW1, 22 HO1, 23 HOL1, 24 PG1, 25 VIN (in), 26 VOUT1 (power), 27 CS1, 28 FB1, 29 COMP1, 30 SS1, 31 EN1, 32 RES, 33 DEMB, 34 ILSET, 35 AGND (power), 36 VDDA (power), 37 OSC, 38 SYNIN (in), 39 SYNOUT (out), 40 EN2, 41 EP (power)

## LM5140QRWGTQ1_VQFNP40_2
designator U?
footprint TBD
pins: 1 SS2, 2 COMP2, 3 FB2, 4 CS2, 5 VOUT2 (power), 6 VCCX (power), 7 PG2, 8 HOL2, 9 HO2, 10 SW2, 11 HB2, 12 LOL2, 13 LO2, 14 PGND2 (power), 15 VCC (power), 16 VCC (power), 17 PGND1 (power), 18 LO1, 19 LOL1, 20 HB1, 21 SW1, 22 HO1, 23 HOL1, 24 PG1, 25 VIN (in), 26 VOUT1 (power), 27 CS1, 28 FB1, 29 COMP1, 30 SS1, 31 EN1, 32 RES, 33 DEMB, 34 ILSET, 35 AGND (power), 36 VDDA (power), 37 OSC, 38 SYNIN (in), 39 SYNOUT (out), 40 EN2, 41 EP (power)

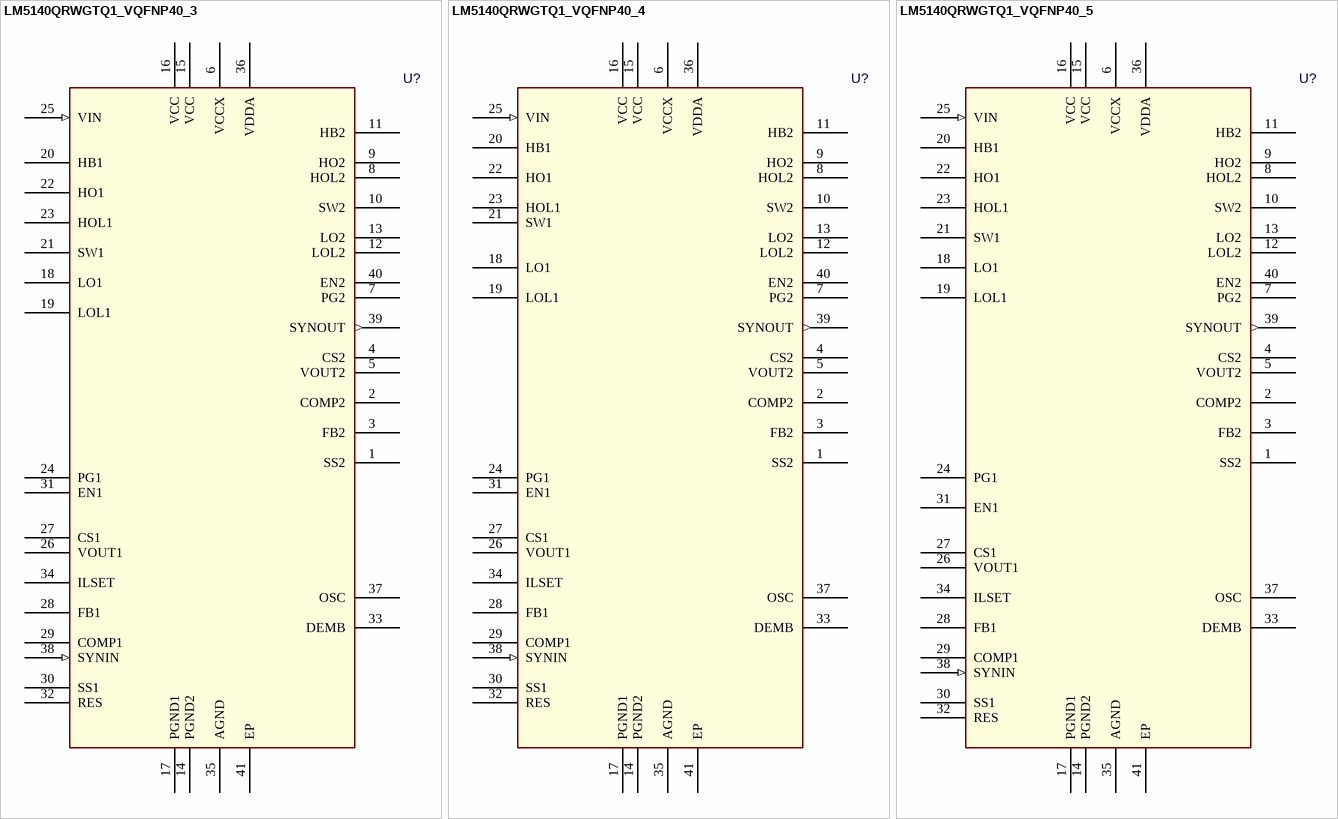
[diagram p15: symbols LM5140QRWGTQ1_VQFNP40_3 to LM5140QRWGTQ1_VQFNP40_5]

## LM5140QRWGTQ1_VQFNP40_3
designator U?
footprint TBD
pins: 1 SS2, 2 COMP2, 3 FB2, 4 CS2, 5 VOUT2 (power), 6 VCCX (power), 7 PG2, 8 HOL2, 9 HO2, 10 SW2, 11 HB2, 12 LOL2, 13 LO2, 14 PGND2 (power), 15 VCC (power), 16 VCC (power), 17 PGND1 (power), 18 LO1, 19 LOL1, 20 HB1, 21 SW1, 22 HO1, 23 HOL1, 24 PG1, 25 VIN (in), 26 VOUT1 (power), 27 CS1, 28 FB1, 29 COMP1, 30 SS1, 31 EN1, 32 RES, 33 DEMB, 34 ILSET, 35 AGND (power), 36 VDDA (power), 37 OSC, 38 SYNIN (in), 39 SYNOUT (out), 40 EN2, 41 EP (power)

## LM5140QRWGTQ1_VQFNP40_4
designator U?
footprint TBD
pins: 1 SS2, 2 COMP2, 3 FB2, 4 CS2, 5 VOUT2 (power), 6 VCCX (power), 7 PG2, 8 HOL2, 9 HO2, 10 SW2, 11 HB2, 12 LOL2, 13 LO2, 14 PGND2 (power), 15 VCC (power), 16 VCC (power), 17 PGND1 (power), 18 LO1, 19 LOL1, 20 HB1, 21 SW1, 22 HO1, 23 HOL1, 24 PG1, 25 VIN (in), 26 VOUT1 (power), 27 CS1, 28 FB1, 29 COMP1, 30 SS1, 31 EN1, 32 RES, 33 DEMB, 34 ILSET, 35 AGND (power), 36 VDDA (power), 37 OSC, 38 SYNIN (in), 39 SYNOUT (out), 40 EN2, 41 EP (power)

## LM5140QRWGTQ1_VQFNP40_5
designator U?
footprint TBD
pins: 1 SS2, 2 COMP2, 3 FB2, 4 CS2, 5 VOUT2 (power), 6 VCCX (power), 7 PG2, 8 HOL2, 9 HO2, 10 SW2, 11 HB2, 12 LOL2, 13 LO2, 14 PGND2 (power), 15 VCC (power), 16 VCC (power), 17 PGND1 (power), 18 LO1, 19 LOL1, 20 HB1, 21 SW1, 22 HO1, 23 HOL1, 24 PG1, 25 VIN (in), 26 VOUT1 (power), 27 CS1, 28 FB1, 29 COMP1, 30 SS1, 31 EN1, 32 RES, 33 DEMB, 34 ILSET, 35 AGND (power), 36 VDDA (power), 37 OSC, 38 SYNIN (in), 39 SYNOUT (out), 40 EN2, 41 EP (power)

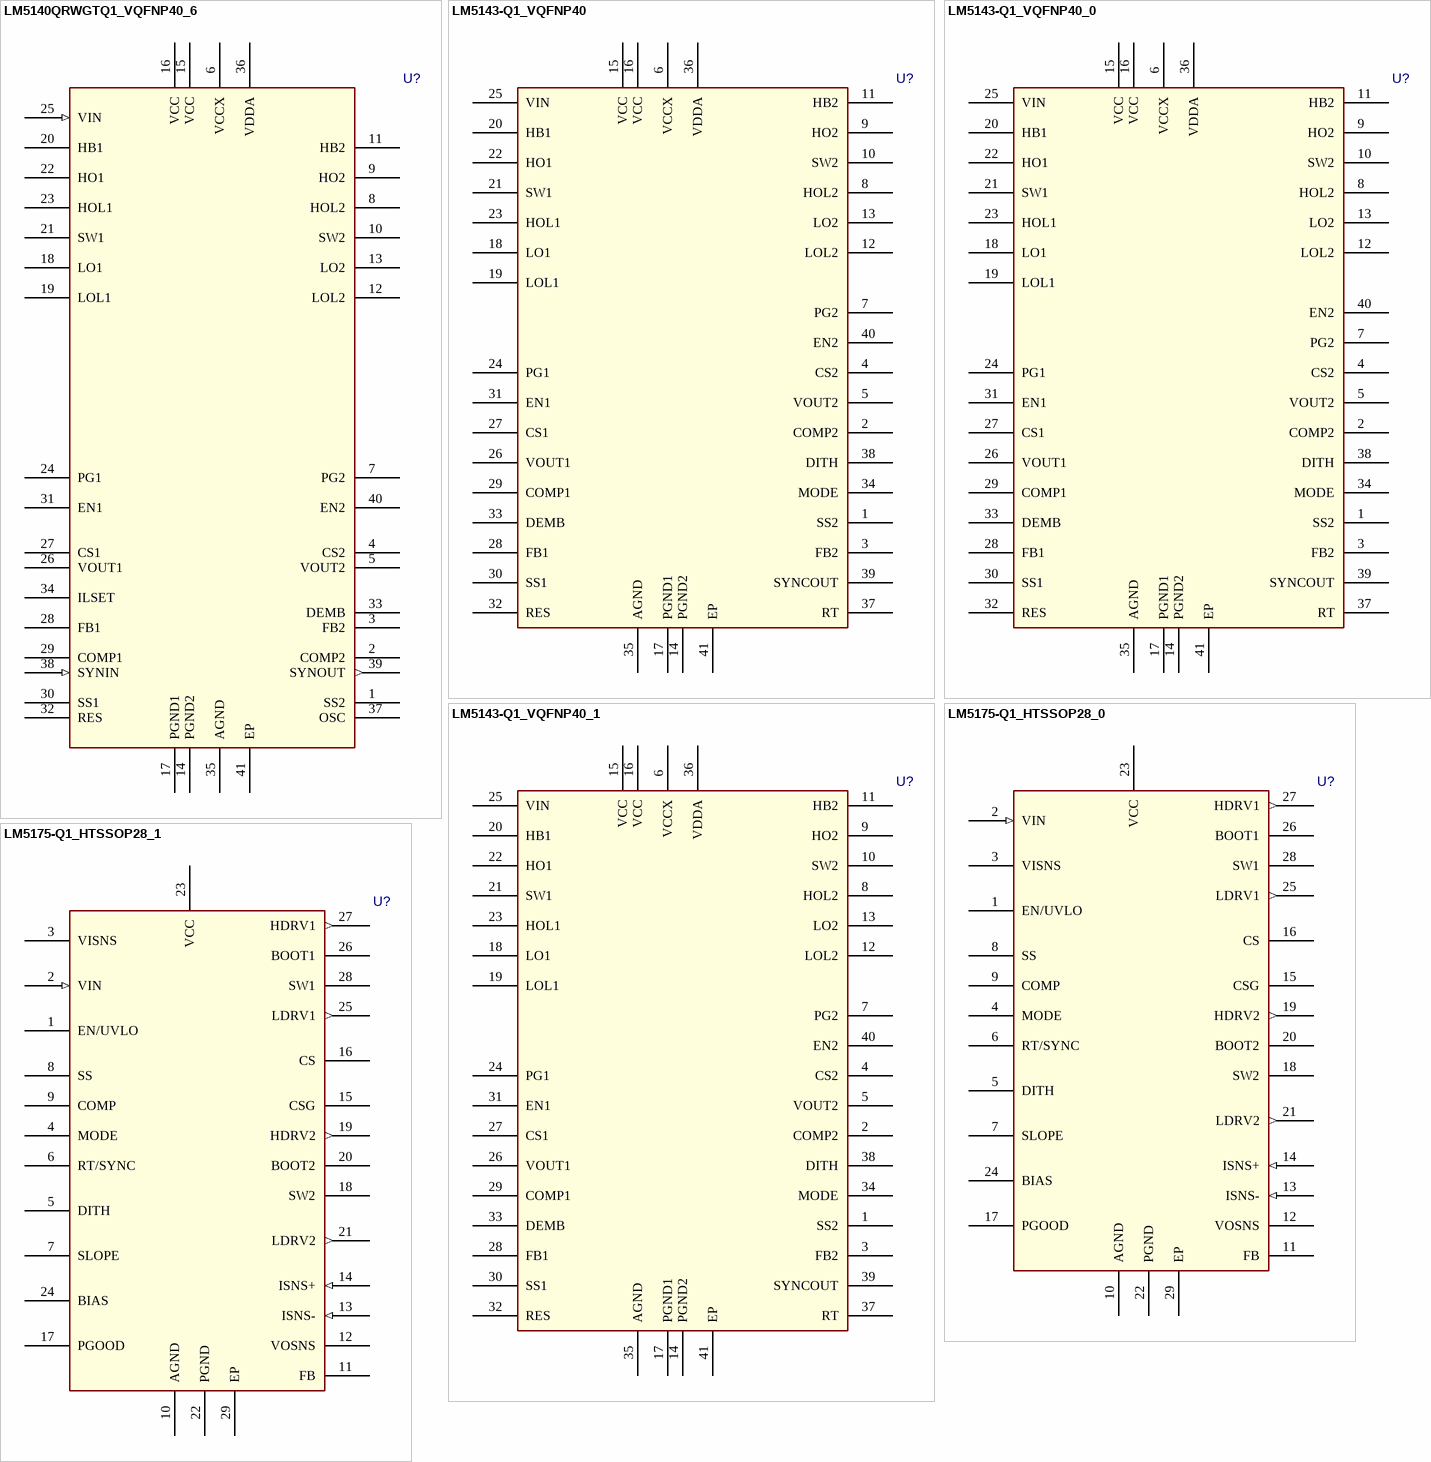
[diagram p16: symbols LM5140QRWGTQ1_VQFNP40_6 to LM5175-Q1_HTSSOP28_1]

## LM5140QRWGTQ1_VQFNP40_6
designator U?
footprint TBD
pins: 1 SS2, 2 COMP2, 3 FB2, 4 CS2, 5 VOUT2 (power), 6 VCCX (power), 7 PG2, 8 HOL2, 9 HO2, 10 SW2, 11 HB2, 12 LOL2, 13 LO2, 14 PGND2 (power), 15 VCC (power), 16 VCC (power), 17 PGND1 (power), 18 LO1, 19 LOL1, 20 HB1, 21 SW1, 22 HO1, 23 HOL1, 24 PG1, 25 VIN (in), 26 VOUT1 (power), 27 CS1, 28 FB1, 29 COMP1, 30 SS1, 31 EN1, 32 RES, 33 DEMB, 34 ILSET, 35 AGND (power), 36 VDDA (power), 37 OSC, 38 SYNIN (in), 39 SYNOUT (out), 40 EN2, 41 EP (power)

## LM5143-Q1_VQFNP40
designator U?
pins: 1 SS2, 2 COMP2, 3 FB2, 4 CS2, 5 VOUT2, 6 VCCX (power), 7 PG2, 8 HOL2, 9 HO2, 10 SW2, 11 HB2, 12 LOL2, 13 LO2, 14 PGND2 (power), 15 VCC (power), 16 VCC (power), 17 PGND1 (power), 18 LO1, 19 LOL1, 20 HB1, 21 SW1, 22 HO1, 23 HOL1, 24 PG1, 25 VIN, 26 VOUT1, 27 CS1, 28 FB1, 29 COMP1, 30 SS1, 31 EN1, 32 RES, 33 DEMB, 34 MODE, 35 AGND (power), 36 VDDA (power), 37 RT, 38 DITH, 39 SYNCOUT, 40 EN2, 41 EP (power)

## LM5143-Q1_VQFNP40_0
designator U?
pins: 1 SS2, 2 COMP2, 3 FB2, 4 CS2, 5 VOUT2, 6 VCCX (power), 7 PG2, 8 HOL2, 9 HO2, 10 SW2, 11 HB2, 12 LOL2, 13 LO2, 14 PGND2 (power), 15 VCC (power), 16 VCC (power), 17 PGND1 (power), 18 LO1, 19 LOL1, 20 HB1, 21 SW1, 22 HO1, 23 HOL1, 24 PG1, 25 VIN, 26 VOUT1, 27 CS1, 28 FB1, 29 COMP1, 30 SS1, 31 EN1, 32 RES, 33 DEMB, 34 MODE, 35 AGND (power), 36 VDDA (power), 37 RT, 38 DITH, 39 SYNCOUT, 40 EN2, 41 EP (power)

## LM5143-Q1_VQFNP40_1
designator U?
pins: 1 SS2, 2 COMP2, 3 FB2, 4 CS2, 5 VOUT2, 6 VCCX (power), 7 PG2, 8 HOL2, 9 HO2, 10 SW2, 11 HB2, 12 LOL2, 13 LO2, 14 PGND2 (power), 15 VCC (power), 16 VCC (power), 17 PGND1 (power), 18 LO1, 19 LOL1, 20 HB1, 21 SW1, 22 HO1, 23 HOL1, 24 PG1, 25 VIN, 26 VOUT1, 27 CS1, 28 FB1, 29 COMP1, 30 SS1, 31 EN1, 32 RES, 33 DEMB, 34 MODE, 35 AGND (power), 36 VDDA (power), 37 RT, 38 DITH, 39 SYNCOUT, 40 EN2, 41 EP (power)

## LM5175-Q1_HTSSOP28_0
designator U?
pins: 1 EN/UVLO, 2 VIN (in), 3 VISNS, 4 MODE, 5 DITH, 6 RT/SYNC, 7 SLOPE, 8 SS, 9 COMP, 10 AGND (power), 11 FB, 12 VOSNS, 13 ISNS- (in), 14 ISNS+ (in), 15 CSG, 16 CS, 17 PGOOD, 18 SW2, 19 HDRV2 (out), 20 BOOT2, 21 LDRV2 (out), 22 PGND (power), 23 VCC (power), 24 BIAS, 25 LDRV1 (out), 26 BOOT1, 27 HDRV1 (out), 28 SW1, 29 EP (power)

## LM5175-Q1_HTSSOP28_1
designator U?
pins: 1 EN/UVLO, 2 VIN (in), 3 VISNS, 4 MODE, 5 DITH, 6 RT/SYNC, 7 SLOPE, 8 SS, 9 COMP, 10 AGND (power), 11 FB, 12 VOSNS, 13 ISNS- (in), 14 ISNS+ (in), 15 CSG, 16 CS, 17 PGOOD, 18 SW2, 19 HDRV2 (out), 20 BOOT2, 21 LDRV2 (out), 22 PGND (power), 23 VCC (power), 24 BIAS, 25 LDRV1 (out), 26 BOOT1, 27 HDRV1 (out), 28 SW1, 29 EP (power)

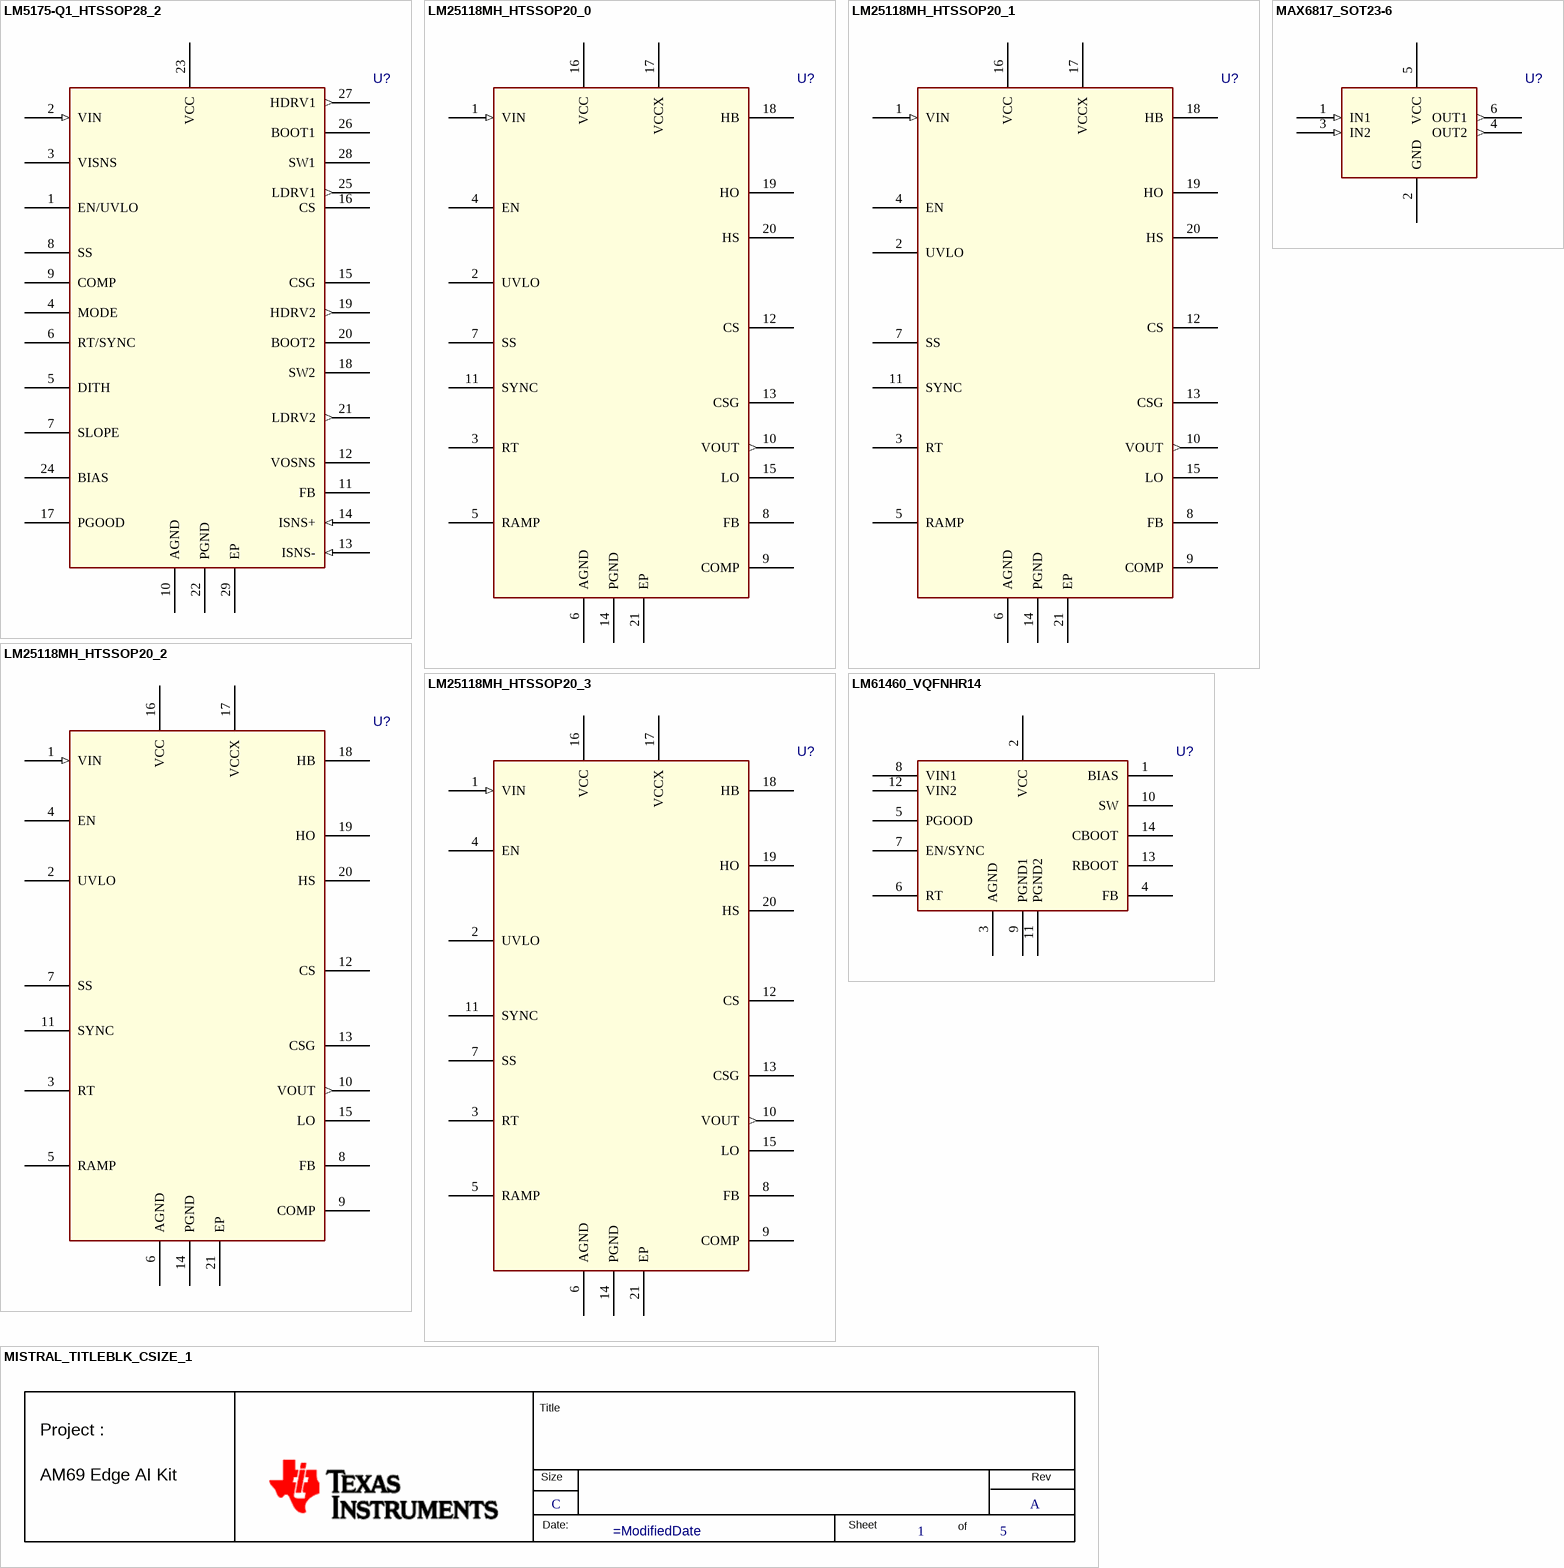
[diagram p17: symbols LM5175-Q1_HTSSOP28_2 to MISTRAL_TITLEBLK_CSIZE_1]

## LM5175-Q1_HTSSOP28_2
designator U?
pins: 1 EN/UVLO, 2 VIN (in), 3 VISNS, 4 MODE, 5 DITH, 6 RT/SYNC, 7 SLOPE, 8 SS, 9 COMP, 10 AGND (power), 11 FB, 12 VOSNS, 13 ISNS- (in), 14 ISNS+ (in), 15 CSG, 16 CS, 17 PGOOD, 18 SW2, 19 HDRV2 (out), 20 BOOT2, 21 LDRV2 (out), 22 PGND (power), 23 VCC (power), 24 BIAS, 25 LDRV1 (out), 26 BOOT1, 27 HDRV1 (out), 28 SW1, 29 EP (power)

## LM25118MH_HTSSOP20_0
designator U?
pins: 1 VIN (in), 2 UVLO, 3 RT, 4 EN, 5 RAMP, 6 AGND (power), 7 SS, 8 FB, 9 COMP, 10 VOUT (out), 11 SYNC, 12 CS, 13 CSG, 14 PGND (power), 15 LO, 16 VCC (power), 17 VCCX (power), 18 HB, 19 HO, 20 HS, 21 EP (power)

## LM25118MH_HTSSOP20_1
designator U?
pins: 1 VIN (in), 2 UVLO, 3 RT, 4 EN, 5 RAMP, 6 AGND (power), 7 SS, 8 FB, 9 COMP, 10 VOUT (out), 11 SYNC, 12 CS, 13 CSG, 14 PGND (power), 15 LO, 16 VCC (power), 17 VCCX (power), 18 HB, 19 HO, 20 HS, 21 EP (power)

## LM25118MH_HTSSOP20_2
designator U?
pins: 1 VIN (in), 2 UVLO, 3 RT, 4 EN, 5 RAMP, 6 AGND (power), 7 SS, 8 FB, 9 COMP, 10 VOUT (out), 11 SYNC, 12 CS, 13 CSG, 14 PGND (power), 15 LO, 16 VCC (power), 17 VCCX (power), 18 HB, 19 HO, 20 HS, 21 EP (power)

## LM25118MH_HTSSOP20_3
designator U?
pins: 1 VIN (in), 2 UVLO, 3 RT, 4 EN, 5 RAMP, 6 AGND (power), 7 SS, 8 FB, 9 COMP, 10 VOUT (out), 11 SYNC, 12 CS, 13 CSG, 14 PGND (power), 15 LO, 16 VCC (power), 17 VCCX (power), 18 HB, 19 HO, 20 HS, 21 EP (power)

## LM61460_VQFNHR14
designator U?
pins: 1 BIAS, 2 VCC (power), 3 AGND (power), 4 FB, 5 PGOOD, 6 RT, 7 EN/SYNC, 8 VIN1, 9 PGND1 (power), 10 SW, 11 PGND2 (power), 12 VIN2, 13 RBOOT, 14 CBOOT

## MAX6817_SOT23-6
designator U?
pins: 1 IN1 (in), 2 GND (power), 3 IN2 (in), 4 OUT2 (out), 5 VCC (power), 6 OUT1 (out)

## MISTRAL_TITLEBLK_CSIZE_1
designator *  RevCode: A  Page Size: C  Page Number: 1  Page Count: 5  (hidden comment: *)  (graphical)
Doc: PROC022E_SCH; Issue: 1.0; Project: K2G ICE; Page Create Date: March  8, 1995; Page Modify Date: =ModifiedDate
text: Title; Project :; Size; Rev; AM69 Edge AI Kit; Date:; Sheet; of

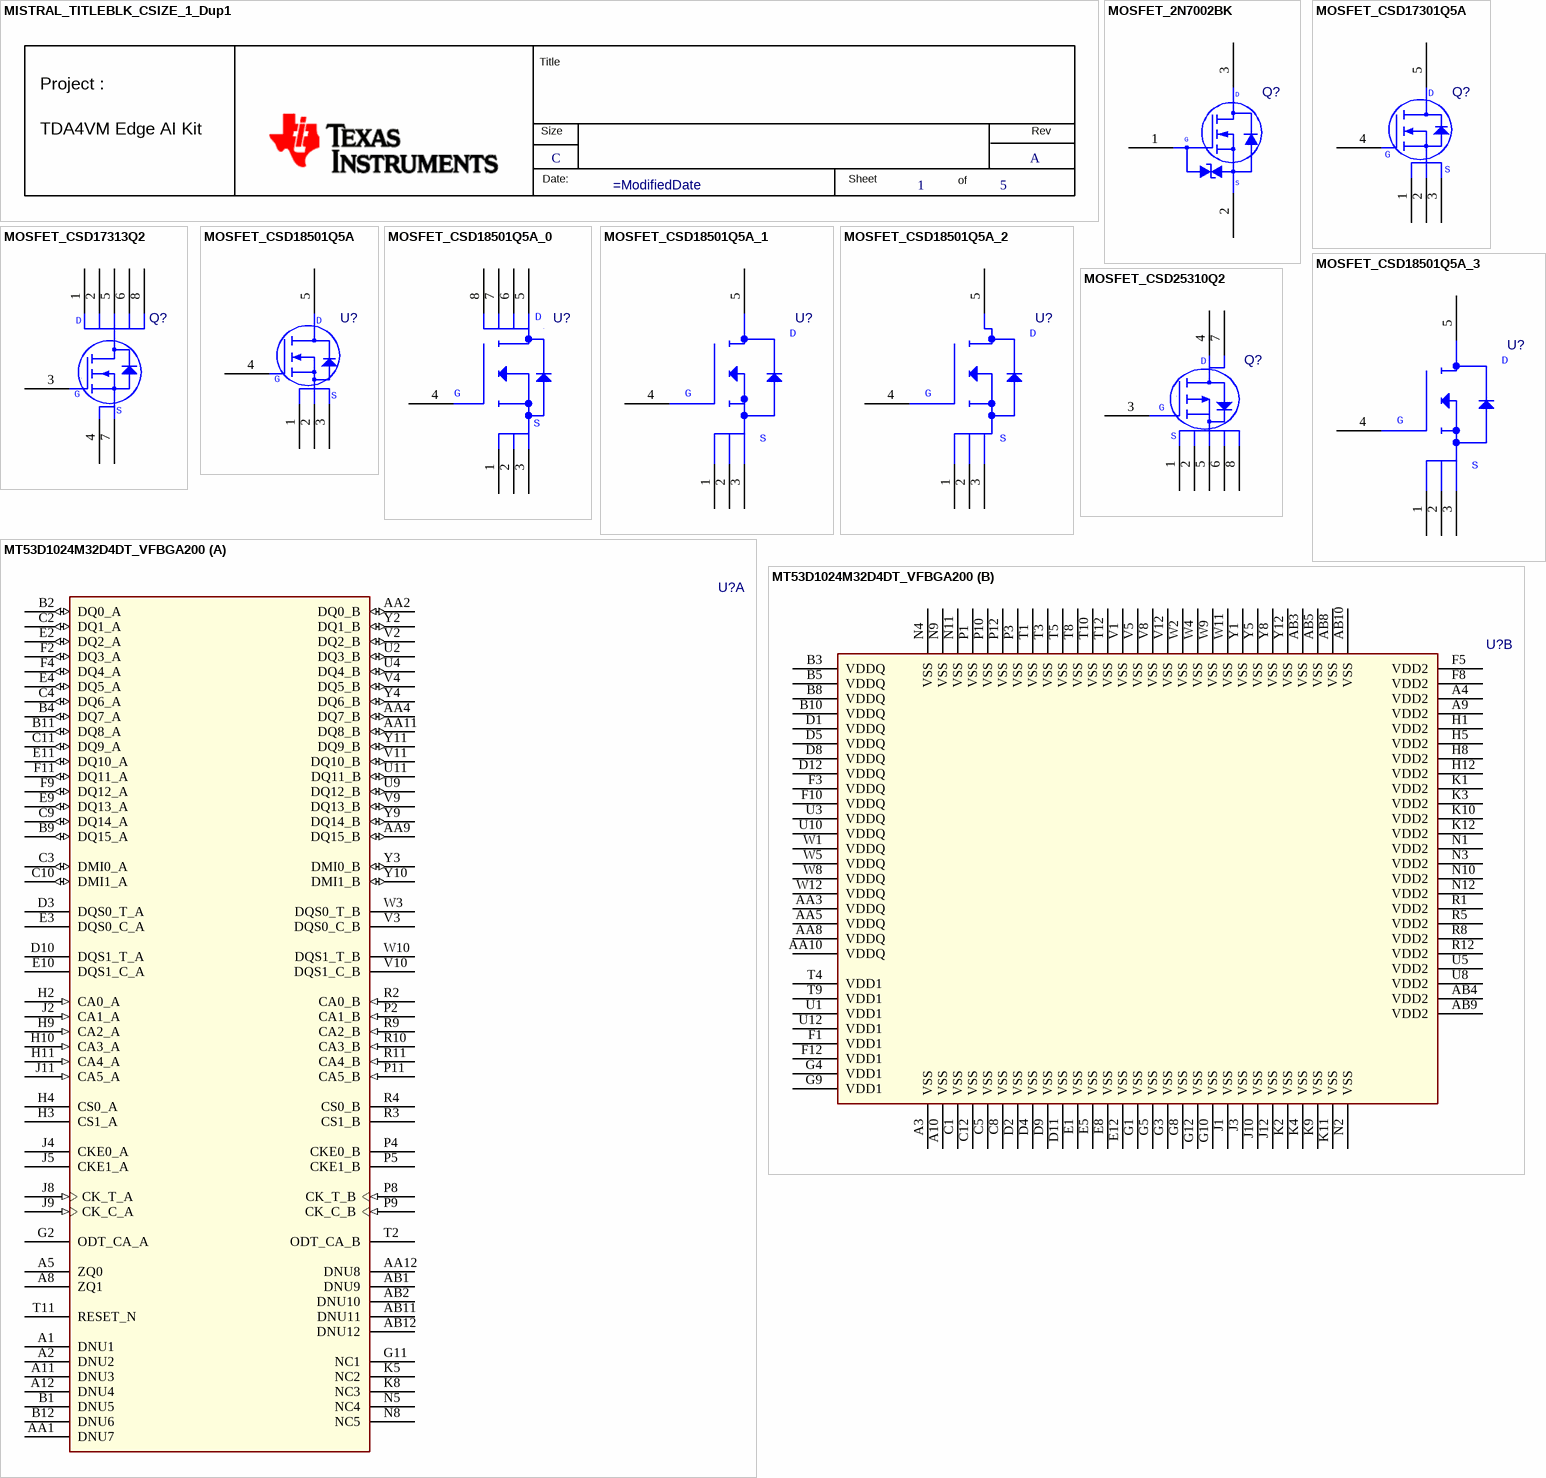
[diagram p18: symbols MISTRAL_TITLEBLK_CSIZE_1_Dup1 to MT53D1024M32D4DT_VFBGA200]

## MISTRAL_TITLEBLK_CSIZE_1_Dup1
designator *  Page Count: 5  Page Number: 1  Page Size: C  RevCode: A  (hidden comment: *)  (graphical)
Project: K2G ICE; Issue: 1.0; Doc: PROC022E_SCH; Page Create Date: March  8, 1995; Page Modify Date: =ModifiedDate
text: Title; Project :; Size; Rev; TDA4VM Edge AI Kit; Date:; Sheet; of

## MOSFET_2N7002BK
designator Q?
pins: 1 G, 2 S, 3 D

## MOSFET_CSD17301Q5A
designator Q?
pins: 1 S1, 2 S2, 3 S3, 4 G, 5 D
text: S

## MOSFET_CSD17313Q2
designator Q?
pins: 1 D1, 2 D2, 3 G, 4 S1, 5 D3, 6 D4, 7 S2, 8 D5
text: D; S

## MOSFET_CSD18501Q5A
designator U?
pins: 1 S1, 2 S2, 3 S3, 4 GATE, 5 D1
text: D; G; S

## MOSFET_CSD18501Q5A_0
designator U?
pins: 1 S1, 2 S2, 3 S3, 4 G, 5 D, 6 D, 7 D, 8 D
text: S

## MOSFET_CSD18501Q5A_1
designator U?
pins: 1 S1, 2 S2, 3 S3, 4 G, 5 D
text: S

## MOSFET_CSD18501Q5A_2
designator U?
pins: 1 S1, 2 S2, 3 S3, 4 G, 5 D
text: S

## MOSFET_CSD18501Q5A_3
designator U?
pins: 1 S1, 2 S2, 3 S3, 4 G, 5 D
text: S

## MOSFET_CSD25310Q2
designator Q?
pins: 1 S1, 2 S2, 3 G, 4 D1, 5 S3, 6 S4, 7 D2, 8 S5
text: D; S

## MT53D1024M32D4DT_VFBGA200
designator U?
part A pins: A1 DNU1, A2 DNU2, A5 ZQ0, A8 ZQ1, A11 DNU3, A12 DNU4, AA1 DNU7, AA2 DQ0_B (io), AA4 DQ7_B (io), AA9 DQ15_B (io), AA11 DQ8_B (io), AA12 DNU8, AB1 DNU9, AB2 DNU10, AB11 DNU11, AB12 DNU12, B1 DNU5, B2 DQ0_A (io), B4 DQ7_A (io), B9 DQ15_A (io), B11 DQ8_A (io), B12 DNU6, C2 DQ1_A (io), C3 DMI0_A (io), C4 DQ6_A (io), C9 DQ14_A (io), C10 DMI1_A (io), C11 DQ9_A (io), D3 DQS0_T_A, D10 DQS1_T_A, E2 DQ2_A (io), E3 DQS0_C_A, E4 DQ5_A (io), E9 DQ13_A (io), E10 DQS1_C_A, E11 DQ10_A (io), F2 DQ3_A (io), F4 DQ4_A (io), F9 DQ12_A (io), F11 DQ11_A (io), G2 ODT_CA_A, G11 NC1, H2 CA0_A (in), H3 CS1_A, H4 CS0_A, H9 CA2_A (in), H10 CA3_A (in), H11 CA4_A (in), J2 CA1_A (in), J4 CKE0_A, J5 CKE1_A, J8 CK_T_A (in), J9 CK_C_A (in), J11 CA5_A (in), K5 NC2, K8 NC3, N5 NC4, N8 NC5, P2 CA1_B (in), P4 CKE0_B, P5 CKE1_B, P8 CK_T_B (in), P9 CK_C_B (in), P11 CA5_B (in), R2 CA0_B (in), R3 CS1_B, R4 CS0_B, R9 CA2_B (in), R10 CA3_B (in), R11 CA4_B (in), T2 ODT_CA_B, T11 RESET_N, U2 DQ3_B (io), U4 DQ4_B (io), U9 DQ12_B (io), U11 DQ11_B (io), V2 DQ2_B (io), V3 DQS0_C_B, V4 DQ5_B (io), V9 DQ13_B (io), V10 DQS1_C_B, V11 DQ10_B (io), W3 DQS0_T_B, W10 DQS1_T_B, Y2 DQ1_B (io), Y3 DMI0_B (io), Y4 DQ6_B (io), Y9 DQ14_B (io), Y10 DMI1_B (io), Y11 DQ9_B (io)
part B pins: A3 VSS (power), A4 VDD2 (power), A9 VDD2 (power), A10 VSS (power), AA3 VDDQ (power), AA5 VDDQ (power), AA8 VDDQ (power), AA10 VDDQ (power), AB3 VSS (power), AB4 VDD2 (power), AB5 VSS (power), AB8 VSS (power), AB9 VDD2 (power), AB10 VSS (power), B3 VDDQ (power), B5 VDDQ (power), B8 VDDQ (power), B10 VDDQ (power), C1 VSS (power), C5 VSS (power), C8 VSS (power), C12 VSS (power), D1 VDDQ (power), D2 VSS (power), D4 VSS (power), D5 VDDQ (power), D8 VDDQ (power), D9 VSS (power), D11 VSS (power), D12 VDDQ (power), E1 VSS (power), E5 VSS (power), E8 VSS (power), E12 VSS (power), F1 VDD1 (power), F3 VDDQ (power), F5 VDD2 (power), F8 VDD2 (power), F10 VDDQ (power), F12 VDD1 (power), G1 VSS (power), G3 VSS (power), G4 VDD1 (power), G5 VSS (power), G8 VSS (power), G9 VDD1 (power), G10 VSS (power), G12 VSS (power), H1 VDD2 (power), H5 VDD2 (power), H8 VDD2 (power), H12 VDD2 (power), J1 VSS (power), J3 VSS (power), J10 VSS (power), J12 VSS (power), K1 VDD2 (power), K2 VSS (power), K3 VDD2 (power), K4 VSS (power), K9 VSS (power), K10 VDD2 (power), K11 VSS (power), K12 VDD2 (power), N1 VDD2 (power), N2 VSS (power), N3 VDD2 (power), N4 VSS (power), N9 VSS (power), N10 VDD2 (power), N11 VSS (power), N12 VDD2 (power), P1 VSS (power), P3 VSS (power), P10 VSS (power), P12 VSS (power), R1 VDD2 (power), R5 VDD2 (power), R8 VDD2 (power), R12 VDD2 (power), T1 VSS (power), T3 VSS (power), T4 VDD1 (power), T5 VSS (power), T8 VSS (power), T9 VDD1 (power), T10 VSS (power), T12 VSS (power), U1 VDD1 (power), U3 VDDQ (power), U5 VDD2 (power), U8 VDD2 (power), U10 VDDQ (power), U12 VDD1 (power), V1 VSS (power), V5 VSS (power), V8 VSS (power), V12 VSS (power), W1 VDDQ (power), W2 VSS (power), W4 VSS (power), W5 VDDQ (power), W8 VDDQ (power), W9 VSS (power), W11 VSS (power), W12 VDDQ (power), Y1 VSS (power), Y5 VSS (power), Y8 VSS (power), Y12 VSS (power)

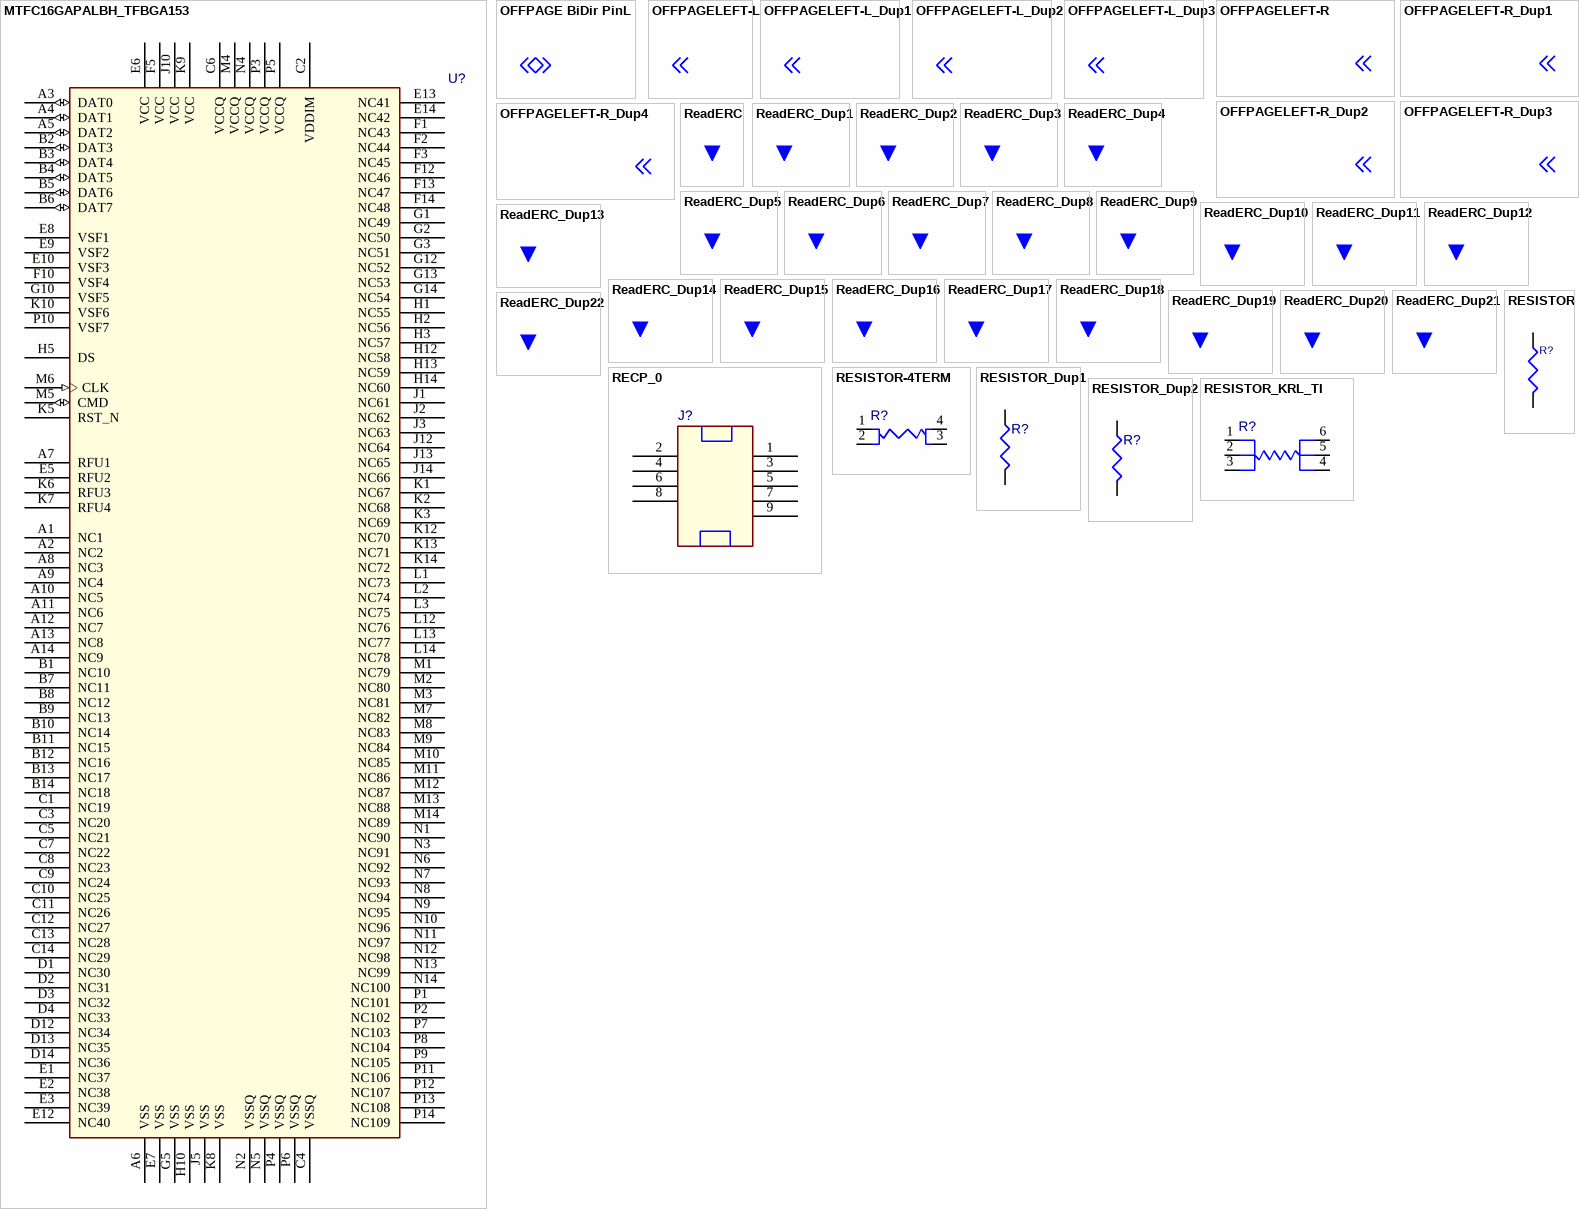
[diagram p19: symbols MTFC16GAPALBH_TFBGA153 to RESISTOR_KRL_TI]

## MTFC16GAPALBH_TFBGA153
designator U?
pins: A1 NC1, A2 NC2, A3 DAT0 (io), A4 DAT1 (io), A5 DAT2 (io), A6 VSS (power), A7 RFU1, A8 NC3, A9 NC4, A10 NC5, A11 NC6, A12 NC7, A13 NC8, A14 NC9, B1 NC10, B2 DAT3 (io), B3 DAT4 (io), B4 DAT5 (io), B5 DAT6 (io), B6 DAT7 (io), B7 NC11, B8 NC12, B9 NC13, B10 NC14, B11 NC15, B12 NC16, B13 NC17, B14 NC18, C1 NC19, C2 VDDIM (power), C3 NC20, C4 VSSQ (power), C5 NC21, C6 VCCQ (power), C7 NC22, C8 NC23, C9 NC24, C10 NC25, C11 NC26, C12 NC27, C13 NC28, C14 NC29, D1 NC30, D2 NC31, D3 NC32, D4 NC33, D12 NC34, D13 NC35, D14 NC36, E1 NC37, E2 NC38, E3 NC39, E5 RFU2, E6 VCC (power), E7 VSS (power), E8 VSF1, E9 VSF2, E10 VSF3, E12 NC40, E13 NC41, E14 NC42, F1 NC43, F2 NC44, F3 NC45, F5 VCC (power), F10 VSF4, F12 NC46, F13 NC47, F14 NC48, G1 NC49, G2 NC50, G3 NC51, G5 VSS (power), G10 VSF5, G12 NC52, G13 NC53, G14 NC54, H1 NC55, H2 NC56, H3 NC57, H5 DS, H10 VSS (power), H12 NC58, H13 NC59, H14 NC60, J1 NC61, J2 NC62, J3 NC63, J5 VSS (power), J10 VCC (power), J12 NC64, J13 NC65, J14 NC66, K1 NC67, K2 NC68, K3 NC69, K5 RST_N, K6 RFU3, K7 RFU4, K8 VSS (power), K9 VCC (power), K10 VSF6, K12 NC70, K13 NC71, K14 NC72, L1 NC73, L2 NC74, L3 NC75, L12 NC76, L13 NC77, L14 NC78, M1 NC79, M2 NC80, M3 NC81, M4 VCCQ (power), M5 CMD (io), M6 CLK (in), M7 NC82, M8 NC83, M9 NC84, M10 NC85, M11 NC86, M12 NC87, M13 NC88, M14 NC89, N1 NC90, N2 VSSQ (power), N3 NC91, N4 VCCQ (power), N5 VSSQ (power), N6 NC92, N7 NC93, N8 NC94, N9 NC95, N10 NC96, N11 NC97, N12 NC98, N13 NC99, N14 NC100, P1 NC101, P2 NC102, P3 VCCQ (power), P4 VSSQ (power), P5 VCCQ (power), P6 VSSQ (power), P7 NC103, P8 NC104, P9 NC105, P10 VSF7, P11 NC106, P12 NC107, P13 NC108, P14 NC109

## OFFPAGE BiDir PinL
designator *  (value not drawn)  (graphical)
pins: $PIN0 (in) hidden

## OFFPAGELEFT-L
designator *  (value not drawn)  (graphical)
pins: $PIN0 (in) hidden

## OFFPAGELEFT-L_Dup1
designator *  (value not drawn)  (graphical)
pins: $PIN0 (in) hidden

## OFFPAGELEFT-L_Dup2
designator *  (value not drawn)  (graphical)
pins: $PIN0 (in) hidden

## OFFPAGELEFT-L_Dup3
designator *  (value not drawn)  (graphical)
pins: $PIN0 (in) hidden

## OFFPAGELEFT-R
designator *  (value not drawn)  (graphical)
pins: $PIN0 (in) hidden

## OFFPAGELEFT-R_Dup1
designator *  (value not drawn)  (graphical)
pins: $PIN0 (in) hidden

## OFFPAGELEFT-R_Dup2
designator *  (value not drawn)  (graphical)
pins: $PIN0 (in) hidden

## OFFPAGELEFT-R_Dup3
designator *  (value not drawn)  (graphical)
pins: $PIN0 (in) hidden

## OFFPAGELEFT-R_Dup4
designator *  (value not drawn)  (graphical)
pins: $PIN0 (in) hidden

## ReadERC
designator *  (value not drawn)  (graphical)

## ReadERC_Dup1
designator *  (value not drawn)  (graphical)

## ReadERC_Dup2
designator *  (value not drawn)  (graphical)

## ReadERC_Dup3
designator *  (value not drawn)  (graphical)

## ReadERC_Dup4
designator *  (value not drawn)  (graphical)

## ReadERC_Dup5
designator *  (value not drawn)  (graphical)

## ReadERC_Dup6
designator *  (value not drawn)  (graphical)

## ReadERC_Dup7
designator *  (value not drawn)  (graphical)

## ReadERC_Dup8
designator *  (value not drawn)  (graphical)

## ReadERC_Dup9
designator *  (value not drawn)  (graphical)

## ReadERC_Dup10
designator *  (value not drawn)  (graphical)

## ReadERC_Dup11
designator *  (value not drawn)  (graphical)

## ReadERC_Dup12
designator *  (value not drawn)  (graphical)

## ReadERC_Dup13
designator *  (value not drawn)  (graphical)

## ReadERC_Dup14
designator *  (value not drawn)  (graphical)

## ReadERC_Dup15
designator *  (value not drawn)  (graphical)

## ReadERC_Dup16
designator *  (value not drawn)  (graphical)

## ReadERC_Dup17
designator *  (value not drawn)  (graphical)

## ReadERC_Dup18
designator *  (value not drawn)  (graphical)

## ReadERC_Dup19
designator *  (value not drawn)  (graphical)

## ReadERC_Dup20
designator *  (value not drawn)  (graphical)

## ReadERC_Dup21
designator *  (value not drawn)  (graphical)

## ReadERC_Dup22
designator *  (value not drawn)  (graphical)

## RECP_0
designator J?
pins: 1, 2, 3, 4, 5, 6, 7, 8, 9

## RESISTOR
designator R?
pins: 1, 2

## RESISTOR-4TERM
designator R?
pins: 1, 2, 3, 4

## RESISTOR_Dup1
designator R?
pins: 1, 2

## RESISTOR_Dup2
designator R?
pins: 1, 2

## RESISTOR_KRL_TI
designator R?
pins: 1, 2, 3, 4, 5, 6

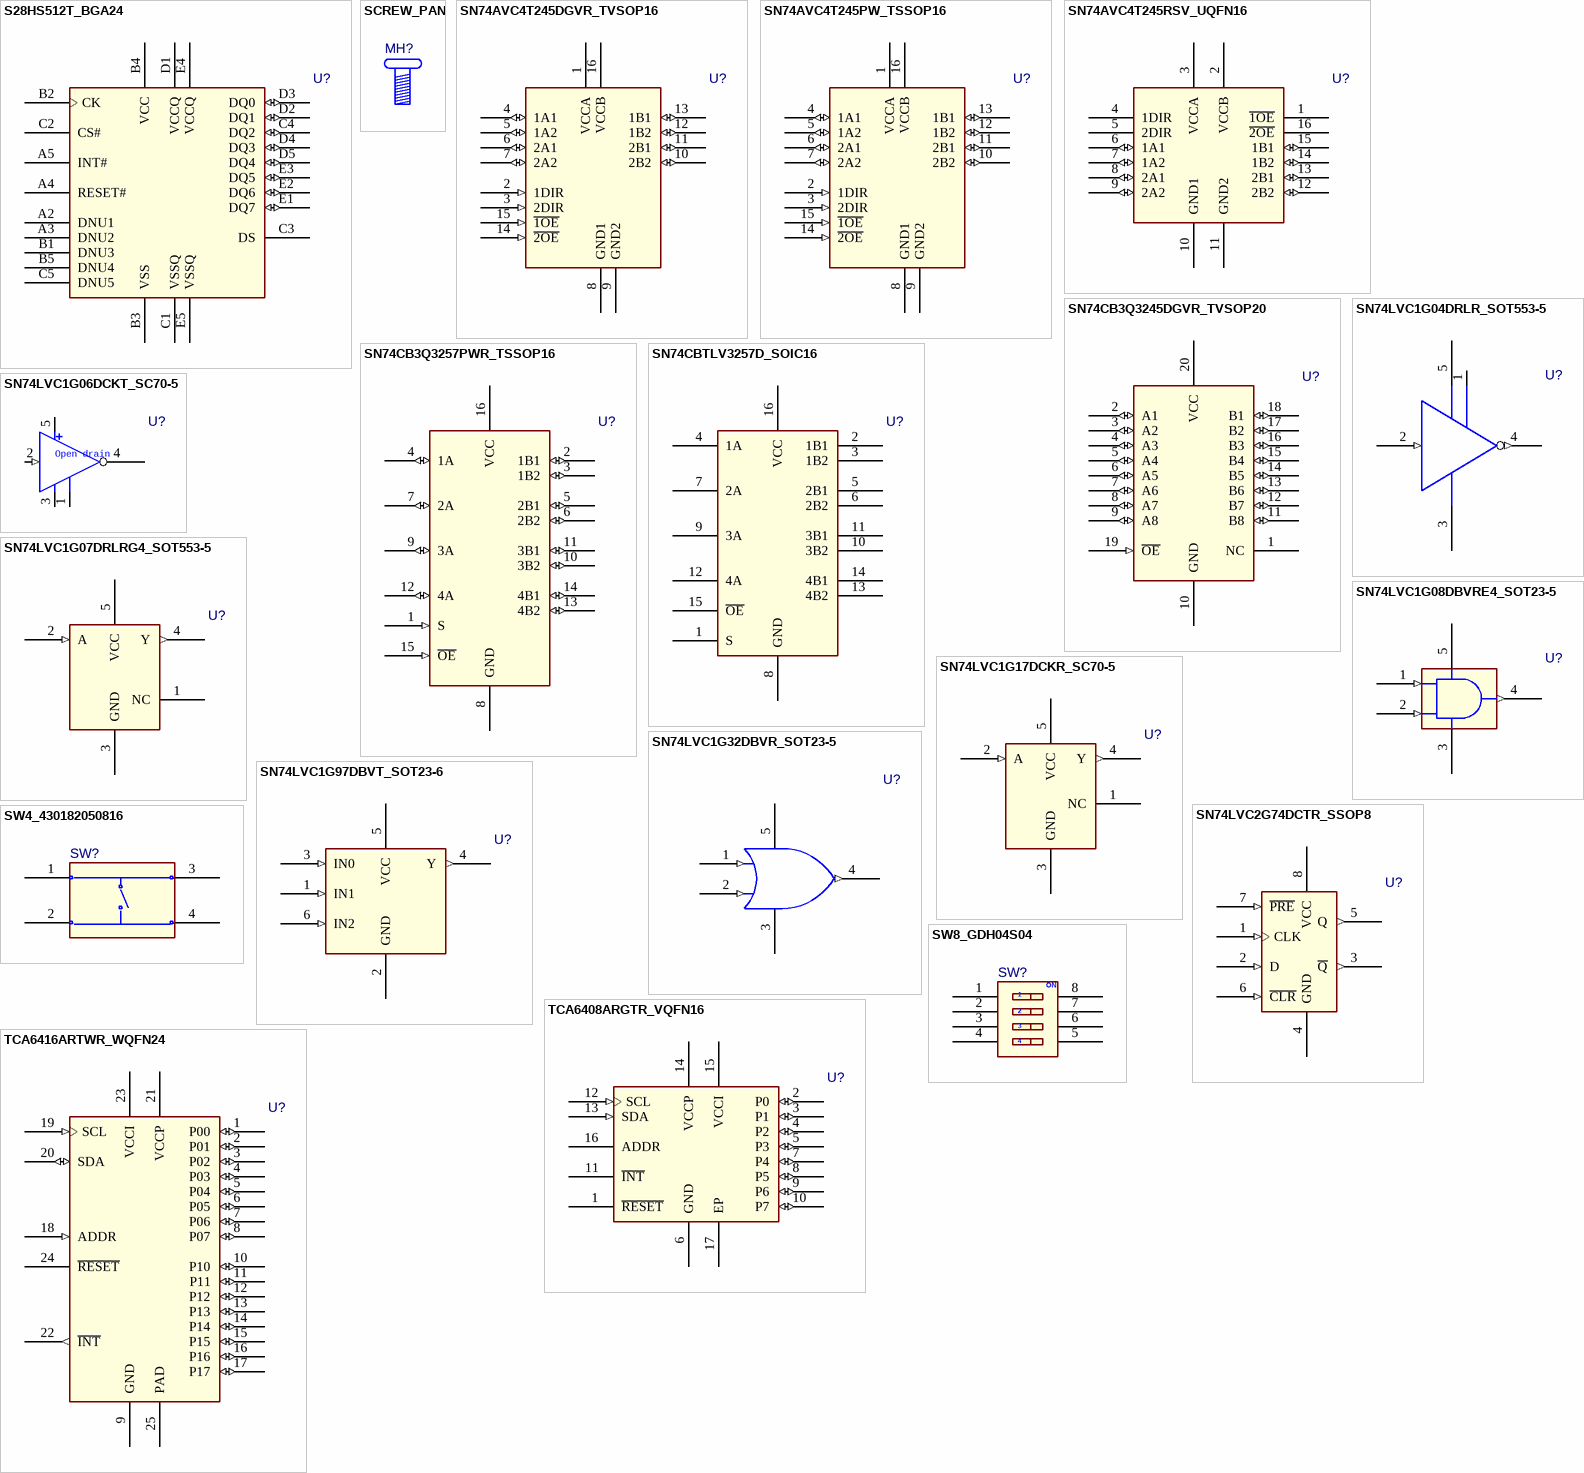
[diagram p20: symbols S28HS512T_BGA24 to TCA6416ARTWR_WQFN24]

## S28HS512T_BGA24
designator U?
pins: A2 DNU1, A3 DNU2, A4 RESET#, A5 INT#, B1 DNU3, B2 CK, B3 VSS (power), B4 VCC (power), B5 DNU4, C1 VSSQ (power), C2 CS#, C3 DS, C4 DQ2 (io), C5 DNU5, D1 VCCQ (power), D2 DQ1 (io), D3 DQ0 (io), D4 DQ3 (io), D5 DQ4 (io), E1 DQ7 (io), E2 DQ6 (io), E3 DQ5 (io), E4 VCCQ (power), E5 VSSQ (power)

## SCREW_PAN
designator MH?

## SN74AVC4T245DGVR_TVSOP16
designator U?
pins: 1 VCCA (power), 2 1DIR (in), 3 2DIR (in), 4 1A1 (io), 5 1A2 (io), 6 2A1 (io), 7 2A2 (io), 8 GND1 (power), 9 GND2 (power), 10 2B2 (io), 11 2B1 (io), 12 1B2 (io), 13 1B1 (io), 14 ~{2OE} (in), 15 ~{1OE} (in), 16 VCCB (power)

## SN74AVC4T245PW_TSSOP16
designator U?
pins: 1 VCCA (power), 2 1DIR (in), 3 2DIR (in), 4 1A1 (io), 5 1A2 (io), 6 2A1 (io), 7 2A2 (io), 8 GND1 (power), 9 GND2 (power), 10 2B2 (io), 11 2B1 (io), 12 1B2 (io), 13 1B1 (io), 14 ~{2OE} (in), 15 ~{1OE} (in), 16 VCCB (power)

## SN74AVC4T245RSV_UQFN16
designator U?
pins: 1 ~{1OE}, 2 VCCB (power), 3 VCCA (power), 4 1DIR, 5 2DIR, 6 1A1 (io), 7 1A2 (io), 8 2A1 (io), 9 2A2 (io), 10 GND1 (power), 11 GND2 (power), 12 2B2 (io), 13 2B1 (io), 14 1B2 (io), 15 1B1 (io), 16 ~{2OE}

## SN74CB3Q3245DGVR_TVSOP20
designator U?
pins: 1 NC, 2 A1 (io), 3 A2 (io), 4 A3 (io), 5 A4 (io), 6 A5 (io), 7 A6 (io), 8 A7 (io), 9 A8 (io), 10 GND (power), 11 B8 (io), 12 B7 (io), 13 B6 (io), 14 B5 (io), 15 B4 (io), 16 B3 (io), 17 B2 (io), 18 B1 (io), 19 ~{OE} (in), 20 VCC (power)

## SN74CB3Q3257PWR_TSSOP16
designator U?
pins: 1 S (in), 2 1B1 (io), 3 1B2 (io), 4 1A (io), 5 2B1 (io), 6 2B2 (io), 7 2A (io), 8 GND (power), 9 3A (io), 10 3B2 (io), 11 3B1 (io), 12 4A (io), 13 4B2 (io), 14 4B1 (io), 15 ~{OE} (in), 16 VCC (power)

## SN74CBTLV3257D_SOIC16
designator U?
pins: 1 S, 2 1B1, 3 1B2, 4 1A, 5 2B1, 6 2B2, 7 2A, 8 GND (power), 9 3A, 10 3B2, 11 3B1, 12 4A, 13 4B2, 14 4B1, 15 ~{OE}, 16 VCC (power)

## SN74LVC1G04DRLR_SOT553-5
designator U?
pins: 1 NC, 2 A (in), 3 GND (power), 4 Y (out), 5 VCC (power)

## SN74LVC1G06DCKT_SC70-5
designator U?
pins: 1 NC, 2 IN A (in), 3 GND (power), 4 OUT (hiz), 5 VCC (power)
text: Open drain

## SN74LVC1G07DRLRG4_SOT553-5
designator U?
pins: 1 NC, 2 A (in), 3 GND (power), 4 Y (out), 5 VCC (power)

## SN74LVC1G08DBVRE4_SOT23-5
designator U?
pins: 1 A (in), 2 B (in), 3 GND (power), 4 Y (out), 5 VCC (power)

## SN74LVC1G17DCKR_SC70-5
designator U?
pins: 1 NC, 2 A (in), 3 GND (power), 4 Y (out), 5 VCC (power)

## SN74LVC1G32DBVR_SOT23-5
designator U?
pins: 1 A (in), 2 B (in), 3 GND (power), 4 Y (out), 5 VCC (power)

## SN74LVC1G97DBVT_SOT23-6
designator U?
pins: 1 IN1 (in), 2 GND (power), 3 IN0 (in), 4 Y (out), 5 VCC (power), 6 IN2 (in)

## SN74LVC2G74DCTR_SSOP8
designator U?
pins: 1 CLK (in), 2 D (in), 3 ~{Q} (out), 4 GND (power), 5 Q (out), 6 ~{CLR} (in), 7 ~{PRE} (in), 8 VCC (power)

## SW4_430182050816
designator SW?
pins: 1, 2, 3, 4

## SW8_GDH04S04
designator SW?
DIP,Straight,0.4 VA@24V,6 position,DIP Switches, Half Pitch, Low Profile; Part No (Manufacturer): GDH06S04 (Tyco Electronics); Component Name: DIP Sw_GDH06S04; Compliance: RoHS; Type: DIP; Operating Temp Range: -30 to 85C
footprint SW6_1P27_8p75x6p0_GDH
pins: 1, 2, 3, 4, 5, 6, 7, 8
text: ON

## TCA6408ARGTR_VQFN16
designator U?
pins: 1 ~{RESET}, 2 P0 (io), 3 P1 (io), 4 P2 (io), 5 P3 (io), 6 GND (power), 7 P4 (io), 8 P5 (io), 9 P6 (io), 10 P7 (io), 11 ~{INT}, 12 SCL (in), 13 SDA (in), 14 VCCP (power), 15 VCCI (power), 16 ADDR, 17 EP (power)

## TCA6416ARTWR_WQFN24
designator U?
pins: 1 P00 (io), 2 P01 (io), 3 P02 (io), 4 P03 (io), 5 P04 (io), 6 P05 (io), 7 P06 (io), 8 P07 (io), 9 GND (power), 10 P10 (io), 11 P11 (io), 12 P12 (io), 13 P13 (io), 14 P14 (io), 15 P15 (io), 16 P16 (io), 17 P17 (io), 18 ADDR (in), 19 SCL (in), 20 SDA (io), 21 VCCP (power), 22 ~{INT} (out), 23 VCCI (power), 24 ~{RESET}, 25 PAD (power)

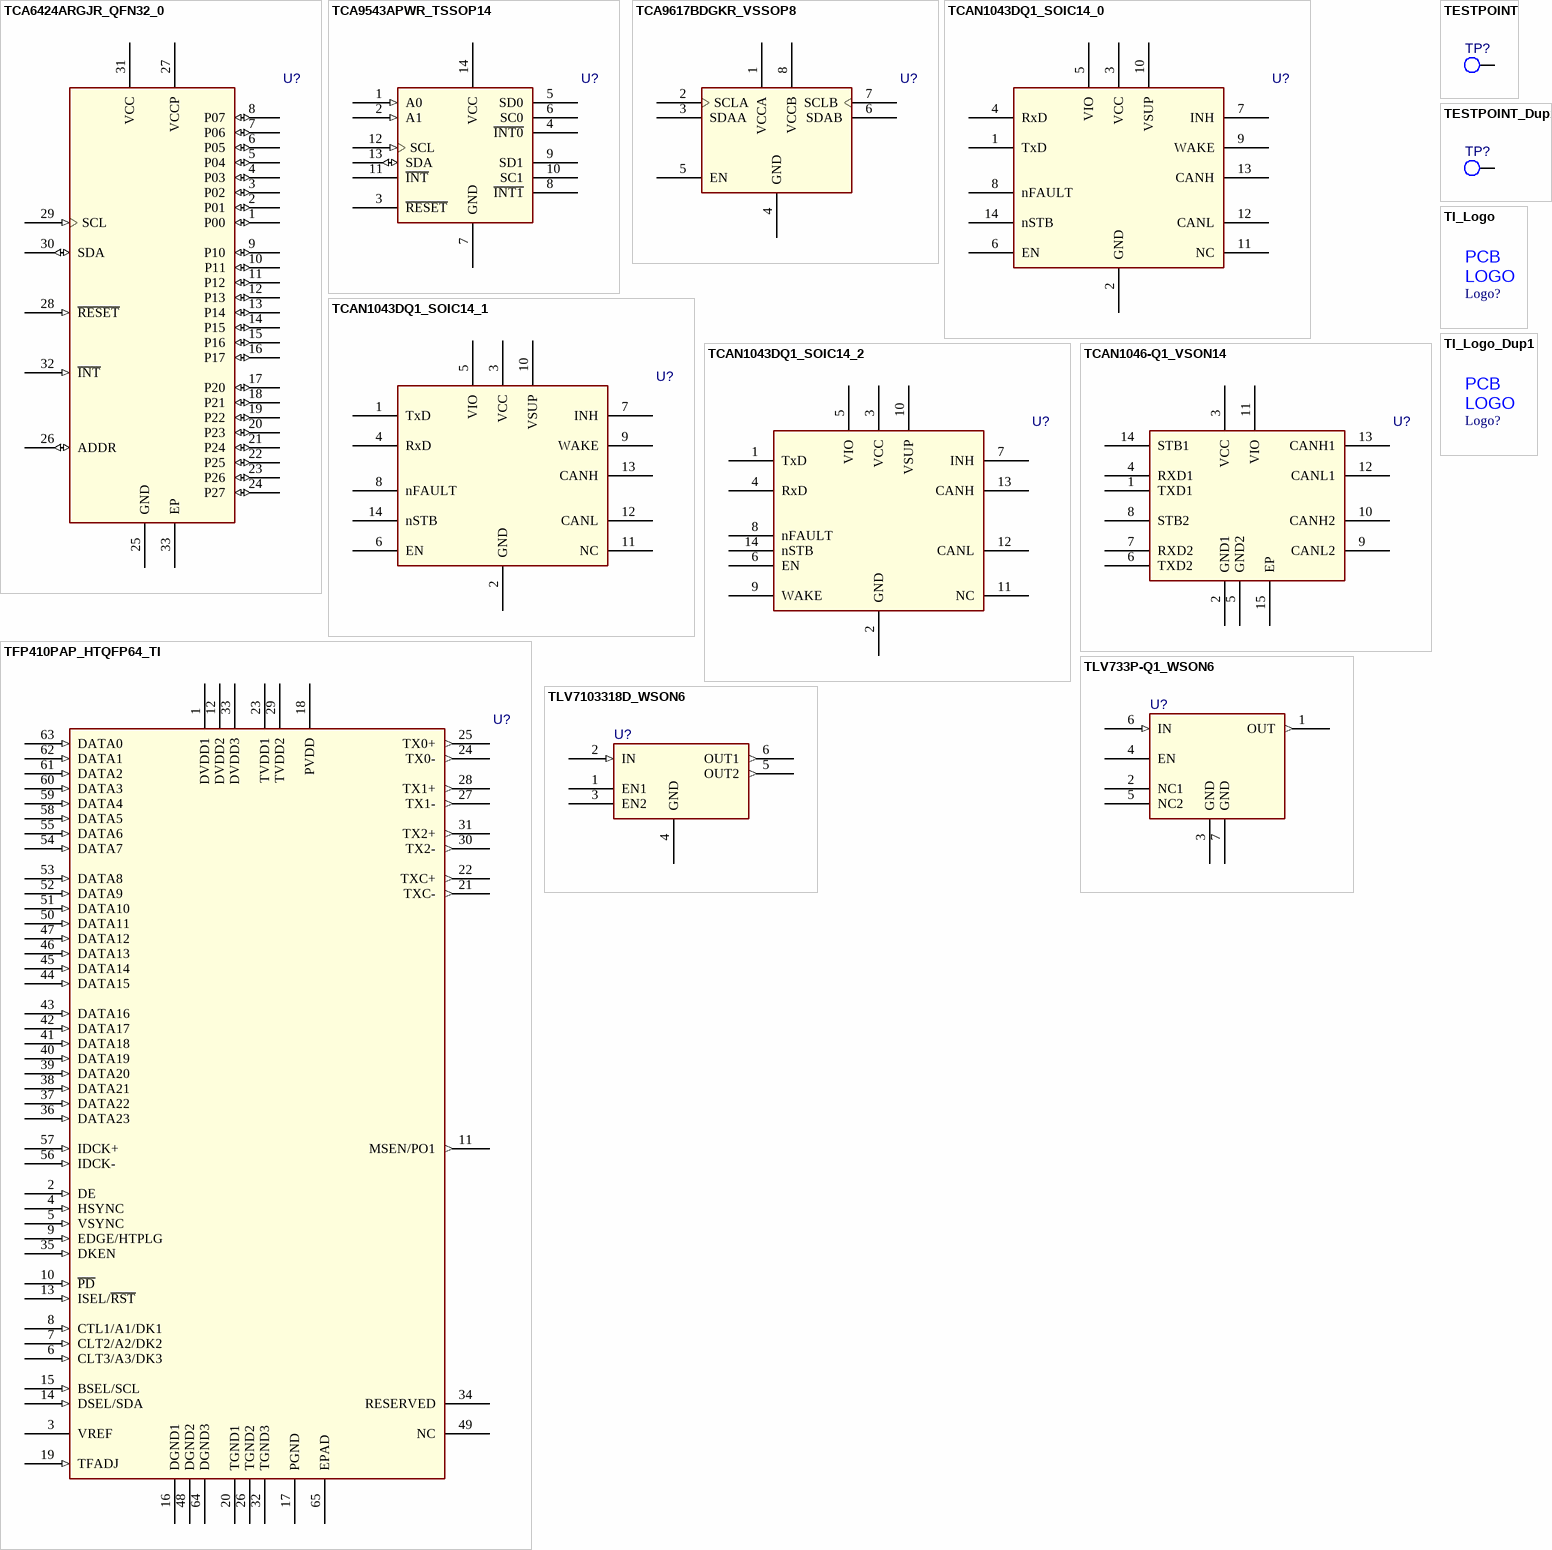
[diagram p21: symbols TCA6424ARGJR_QFN32_0 to TLV7103318D_WSON6]

## TCA6424ARGJR_QFN32_0
designator U?
pins: 1 P00 (io), 2 P01 (io), 3 P02 (io), 4 P03 (io), 5 P04 (io), 6 P05 (io), 7 P06 (io), 8 P07 (io), 9 P10 (io), 10 P11 (io), 11 P12 (io), 12 P13 (io), 13 P14 (io), 14 P15 (io), 15 P16 (io), 16 P17 (io), 17 P20 (io), 18 P21 (io), 19 P22 (io), 20 P23 (io), 21 P24 (io), 22 P25 (io), 23 P26 (io), 24 P27 (io), 25 GND (power), 26 ADDR (io), 27 VCCP (power), 28 ~{RESET} (in), 29 SCL (in), 30 SDA (io), 31 VCC (power), 32 ~{INT} (in), 33 EP (power)

## TCA9543APWR_TSSOP14
designator U?
pins: 1 A0 (in), 2 A1 (in), 3 ~{RESET}, 4 ~{INT0}, 5 SD0, 6 SC0, 7 GND (power), 8 ~{INT1}, 9 SD1, 10 SC1, 11 ~{INT}, 12 SCL (in), 13 SDA (io), 14 VCC (power)

## TCA9617BDGKR_VSSOP8
designator U?
pins: 1 VCCA (power), 2 SCLA, 3 SDAA, 4 GND (power), 5 EN, 6 SDAB, 7 SCLB, 8 VCCB (power)

## TCAN1043DQ1_SOIC14_0
designator U?
pins: 1 TxD, 2 GND (power), 3 VCC (power), 4 RxD, 5 VIO (power), 6 EN, 7 INH, 8 nFAULT, 9 WAKE, 10 VSUP (power), 11 NC, 12 CANL, 13 CANH, 14 nSTB

## TCAN1043DQ1_SOIC14_1
designator U?
pins: 1 TxD, 2 GND (power), 3 VCC (power), 4 RxD, 5 VIO (power), 6 EN, 7 INH, 8 nFAULT, 9 WAKE, 10 VSUP (power), 11 NC, 12 CANL, 13 CANH, 14 nSTB

## TCAN1043DQ1_SOIC14_2
designator U?
pins: 1 TxD, 2 GND (power), 3 VCC (power), 4 RxD, 5 VIO (power), 6 EN, 7 INH, 8 nFAULT, 9 WAKE, 10 VSUP (power), 11 NC, 12 CANL, 13 CANH, 14 nSTB

## TCAN1046-Q1_VSON14
designator U?
pins: 1 TXD1, 2 GND1 (power), 3 VCC (power), 4 RXD1, 5 GND2 (power), 6 TXD2, 7 RXD2, 8 STB2, 9 CANL2, 10 CANH2, 11 VIO (power), 12 CANL1, 13 CANH1, 14 STB1, 15 EP (power)

## TESTPOINT
designator TP?
pins: 1 TP

## TESTPOINT_Dup1
designator TP?
pins: 1 TP